# Altium schematic symbol library ParsaLibrary.SchLib: 419 symbols (part 2 of 3)
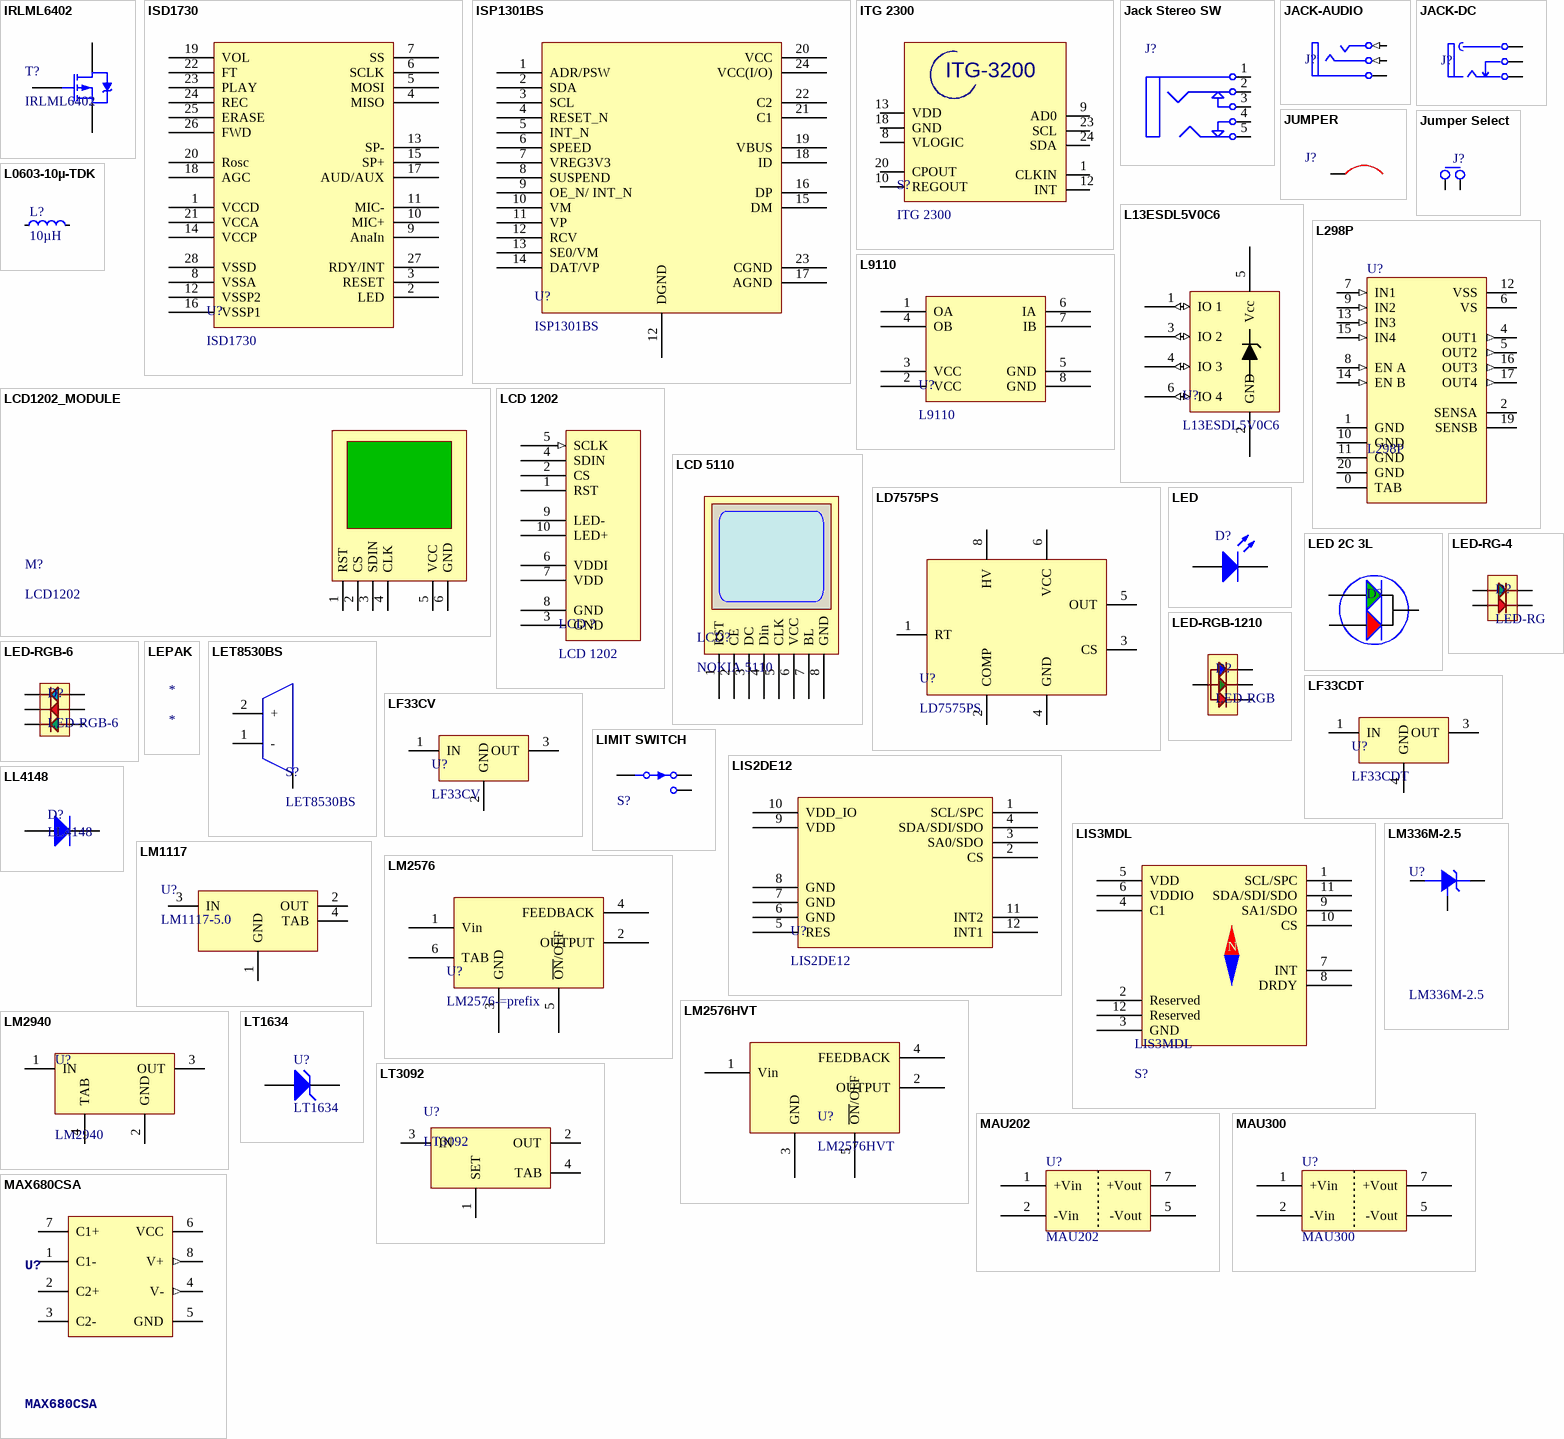
[diagram p18: symbols IRLML6402 to MAX680CSA]

## ITG 2300
designator S?
IMU SENSOR; DESIGNER: PARSA MALEKPOUR
footprint QFN50P400X400-24V6L (QFN, 24-Leads, Body 4x4mm, Pitch 0.5mm, IPC High Density)
pins: 1 CLKIN "Optional external reference clock input. Connect to GND if unused.", 8 VLOGIC "Digital IO supply voltage. VLOGIC must be ? VDD at all times.", 9 AD0 "I2C Slave Address LSB", 10 REGOUT "Regulator filter capacitor connection", 11 RESV_G hidden to GND "Reserved - Connect to ground.", 12 INT "Interrupt digital output (totem pole or open-drain)", 13 VDD "Power supply voltage", 18 GND "Power supply ground", 20 CPOUT "Charge pump capacitor connection", 23 SCL "I2C serial clock", 24 SDA "I2C serial data"
text: ITG-3200

## Jack Stereo SW
designator J?  (value not drawn)
3-Conductor Jack with 2 break contacts (normals) and 2 auxiliary make contacts
footprint Stereo-SW
pins: 1, 2, 3, 4, 5 4

## JACK-AUDIO
designator J?, comment JACK  (value not drawn)
footprint JACK-STERO
pins: 2 G (power) "Sleeve (Ground)", 3 R (in) "Ring/Right Channel/(-)", 4 T (in) "Tip/Left Channel/(+)"

## JACK-DC
designator J?, comment JACK  (value not drawn)
footprint JACK-DC-RIGHT
footprint jack-dc
pins: 1 det "detection", 2 tip (power) "Ring/Right Channel/(-)", 3 sleeve (power) "Sleeve (Ground)"

## JUMPER
designator J?  (value not drawn)
footprint JUMPER-0805
footprint JUMPER-1206 (Footprint not found)
pins: 1

## Jumper Select
designator J?, comment jumper  (value not drawn)
Jumper wire
footprint Selector
pins: 1 C1, 2 C2

## L13ESDL5V0C6
designator U?
The L13ESDL5V0C6-4 is ultra low capacitance TVS arrays designed to / protect high speed data interfaces
footprint SOT-23-6
pins: 1 IO 1 (io), 2 GND (power), 3 IO 2 (io), 4 IO 3 (io), 5 Vcc (power), 6 IO 4 (io)

## L298P
designator U?
Dual Full Bridge Driver; Revision 1: 24-Aug-2001: Footprint Added.; Revision 2: 17-Jul-2002: Re-released for DXP Platform.; Package Information: Latest Revision: Apr-1998; Published: 8-Jun-2000; Datasheet: Latest Revision: Jul-1999; Package Reference: Multiwatt15H; Publisher: Altium Limited
footprint POWERSO-20
pins: 0 TAB (power), 1 GND (power), 2 SENSA, 3 NC hidden, 4 OUT1 (out), 5 OUT2 (out), 6 VS (power), 7 IN1 (in), 8 EN A (in), 9 IN2 (in), 10 GND (power), 11 GND (power), 12 VSS (power), 13 IN3 (in), 14 EN B (in), 15 IN4 (in), 16 OUT3 (out), 17 OUT4 (out), 18 NC hidden, 19 SENSB, 20 GND (power)

## L0603-10µ-TDK
designator L?, comment 10µH
Inductor, 250mA, ±20%, 1.05ohm. -55°C ~ 125°C; Part Number: L0603-10µ-TDK; Manufacturer: TDK Corporation; Manufacturer Part Number: MLZ1608M100WTD25; Note: N.A.; Pad Count: 2; LatestRevisionDate: 2012-09-19; Published: 2019-05-06; Value: 10µH; Footprint Doc: 0603; ComponentLink1Description: Datasheet; ComponentLink2Description: Supplier link; Artikkelnr Noca: N.A.; Part number IPS: N.A.; ComponentLink1URL: N.A.; ComponentLink2URL: N.A.; HelpURL: https://product.tdk.com/info/en/catalog/datasheets/inductor_automotive_decoupling_mlz1608_en.pdf; Supplier 1: Digi-Key; Supplier Part Number 1: 445-175588-1-ND; Supplier 2: Mouser; Supplier Part Number 2: 810-MLZ1608M100WTD25; Component Class: Inductors; PartId: 100300079
footprint INDC1608X06L
pins: 1, 2

## L9110
designator U?
Motor control driver chip
footprint SOIC-8N
pins: 1 OA, 2 VCC, 3 VCC, 4 OB, 5 GND, 6 IA, 7 IB, 8 GND

## LCD1202_MODULE
designator M?, comment LCD1202
footprint LCD1202-MODULE
pins: 1 RST, 2 CS, 3 SDIN, 4 CLK, 5 VCC, 6 GND

## LCD 1202
designator LCD ?
footprint LCD 1202 (NOKIA 1202 LCD)
pins: 1 RST, 2 CS (oc), 3 GND, 4 SDIN, 5 SCLK (in), 6 VDDI "+3.3V", 7 VDD "+3.3V", 8 GND, 9 LED-, 10 LED+

## LCD 5110
designator LCD?, comment NOKIA 5110
NOKIA 5110 LCD 84mm x 84mm
pins: 1 RST, 2 CE, 3 DC, 4 Din, 5 CLK, 6 VCC, 7 BL, 8 GND

## LD7575PS
designator U?
Green-Mode PWM Controller with High-Voltage  Start-Up Circuit
footprint SOIC-8N
pins: 1 RT, 2 COMP, 3 CS, 4 GND, 5 OUT, 6 VCC, 8 HV

## LED
designator D?  (value not drawn)
footprint LED-1206
footprint LED 3MM
footprint led-0603
pins: 1 A, 2 K

## LED 2C 3L
designator D?, comment LED  (value not drawn)
LED 2 COLOR BUT 3 LEAD
footprint LED2 (LED 3 LEAD)
pins: 1, 2, 3

## LED-RG-4
designator D?, comment LED-RG
footprint LED-1210
pins: 1 GRN-A, 2 RED-A, 3 RED-C, 4 GRN-C

## LED-RGB-6
designator D?
footprint LED-5050
pins: 1 GRN-A, 2 RED-A, 3 BLU-A, 4 BLU-C, 5 RED-C, 6 GRN-C

## LED-RGB-1210
designator D?, comment LED-RGB
footprint LED-1210
pins: 1 B, 2 G, 3 R, 4 COM

## LEPAK
designator *

## LET8530BS
designator S?
footprint LET8530BS (Footprint not found)
pins: 0 -, 1 -, 2 +

## LF33CDT
designator U?
footprint TO-252
pins: 1 IN, 3 OUT, 4 GND

## LF33CV
designator U?
footprint TO-220
pins: 1 IN, 2 GND, 3 OUT

## LIMIT SWITCH
designator S?
LIMIT SWITCH; Published: 24-Mar-1999; LatestRevisionDate: 17-Jul-2002; LatestRevisionNote: Re-released for DXP Platform.; PackageReference: SW-7; Publisher: Altium Limited; PackageDescription: Switch; 7 Leads
footprint LIMITSWITCH-1 (12mmx12mm)
pins: 1 com, 2 NO, 3 NC

## LIS2DE12
designator U?
ultra-low-power high-performance 3-axis "femto" accelerometer
footprint LGA12-2X2X1
pins: 1 SCL/SPC, 2 CS, 3 SA0/SDO, 4 SDA/SDI/SDO, 5 RES "Connect to GND", 6 GND (power) "0 V supply", 7 GND (power) "0 V supply", 8 GND (power) "0 V supply", 9 VDD (power), 10 VDD_IO (power), 11 INT2, 12 INT1

## LIS3MDL
designator LIS3MDL, comment S?
Digital output magnetic sensor:   ultra-low-power, high-performance 3-axis magnetometer
footprint LGA12-2X2X1
pins: 1 SCL/SPC "Serial Clock – I2C Master/Slave Clock", 2 Reserved "Connect to GND", 3 GND (power) "Connect to GND", 4 C1 "Capacitor connection (C1=100 nF)", 5 VDD (power) "Power supply", 6 VDDIO (power) "Power supply for I/O pins", 7 INT "Interrupt", 8 DRDY "Data Ready", 9 SA1/SDO "SPI serial data output (SDO)  I  2C less significant bit of the device address (SA1)", 10 CS "SPI enable", 11 SDA/SDI/SDO "I  2C serial data (SDA)  SPI serial data input (SDI)  3-wire interface serial data output (SDO)", 12 Reserved "Connect to GND"
text: N

## LL4148
designator D?
footprint SOD-80 (MINI MELF)
pins: 1 A, 2 K

## LM336M-2.5
designator U?
Voltage Reference Diode, 8-pin Narrow SOIC; Manufacturer: National Semiconductor; PackageTopMarking: NSZXTT*LM336*M2.5; PowerWise: N; CompType: Voltage Reference IC; High-Reliability: Y; DatasheetVersion: Jun-2005; PackageVersion: revM, May-2009; PackageReference: M08A; PackageDescription: SOIC Narrow, 4.9 x 3.9 x 1.45mm, 8 Lead, 1.27mm Pitch; PartNumber: LM336M-2.5; RoHS: N; PinCount: 8; Code_JEDEC: MS-012-AA; Code_IPC: SOIC127P600-8; ComponentLink1Description: Manufacturer URL; ComponentLink1URL: http://www.national.com/; ComponentLink2Description: LM136-2.5 Datasheet; ComponentLink2URL: http://www.national.com/ds/LM/LM136-2.5.pdf; ComponentLink3Description: LM336-2.5 Web Page; ComponentLink3URL: http://www.national.com/pf/LM/LM336-2.5.html; ComponentLink4Description: M08A Package Page; ComponentLink4URL: http://www.national.com/packaging/folders/m08a.html
footprint soic-8n
pins: 4 -V, 5 ADJ, 8 +V

## LM1117
designator U?, comment LM1117-5.0
800mA Low-Dropout Linear Regulator; Output Voltage: 5.0
footprint SOT-223
pins: 1 GND (power), 2 OUT (power), 3 IN (power), 4 TAB (power)

## LM2576
designator U?, comment LM2576-=prefix
3.0 A, 15 V, Step−Down  Switching Regulator; prefix: ADJ
footprint D2PAK
pins: 1 Vin, 2 OUTPUT, 3 GND, 4 FEEDBACK, 5 ~{ON}/OFF, 6 TAB

## LM2576HVT
designator U?
LM2576xx Series SIMPLE SWITCHER® 3-A Step-Down Voltage Regulato
footprint TO-220-5
pins: 1 Vin, 2 OUTPUT, 3 GND, 4 FEEDBACK, 5 ~{ON}/OFF

## LM2940
designator U?
x.x Volt, 800mA Low-Dropout Linear Regulator, 4-pin SOT-223; PartNumber: LM1117IMP-3.3; Manufacturer: National Semiconductor; PackageTopMarking: XYTT*N05B; PowerWise: N; CompType: LDO IC; Published: 4-Dec-2008; DatasheetVersion: Apr-2006; PackageVersion: revB, Apr-2003; PackageReference: MP04A; Publisher: Altium Limited; PackageDescription: Molded SOT-223, 6.50 x 3.56 x 1.6mm Body, 4 Lead, 2.3mm Pitch; Supplier 1: Farnell; Supplier Part Number 1: 7614123; RoHS: N; PinCount: 4; Code_JEDEC: TO-261-AA; Code_IPC: SOT223-4; ComponentLink1Description: LM1117 Datasheet; ComponentLink1URL: http://www.national.com/ds/LM/LM1117.pdf; ComponentLink2Description: LM1117 Web Page; ComponentLink2URL: http://www.national.com/pf/LM/LM1117.html; ComponentLink3Description: MP04A Package Page; ComponentLink3URL: http://www.national.com/packaging/folders/mp04a.html
footprint SOT-223
pins: 1 IN (power), 2 GND (power), 3 OUT (power), 4 TAB (power)

## LT1634
designator U?
Micropower Precision  Shunt Voltage Reference; Published: 8-Jun-2000; LatestRevisionDate: 17-Jul-2002; LatestRevisionNote: Re-released for DXP Platform.; PackageReference: DIODE-0.7; Publisher: Altium Limited; PackageDescription: Diode, Thru-Hole; 2 Leads; 0.7 in Pin Spacing
footprint MSOP-8
pins: 4 GND, 6 VOUT

## LT3092
designator U?
footprint SOT-223
pins: 1 SET (power), 2 OUT (power), 3 IN (power), 4 TAB (power)

## MAU202
designator U?
1W, FIXED INPUT ISOLATED & UNREGULATED / SINGLE OUTPUT DC-DC CONVERTER
footprint MAU202
pins: 1 +Vin, 2 -Vin, 5 -Vout, 7 +Vout

## MAU300
designator U?
2W, FIXED INPUT ISOLATED & UNREGULATED / SINGLE OUTPUT DC-DC CONVERTER
footprint MAU300
pins: 1 +Vin, 2 -Vin, 5 -Vout, 7 +Vout

## MAX680CSA
designator U?
Switched-capcitor VOLTAGE CONVERTER; MF: MAXIM; MPN: MAX680CSA; OC_FARNELL: 9725717; OC_NEWARK: 34C3975
footprint SOIC-8N
pins: 1 C1-, 2 C2+, 3 C2-, 4 V- (out), 5 GND, 6 VCC, 7 C1+, 8 V+ (out)

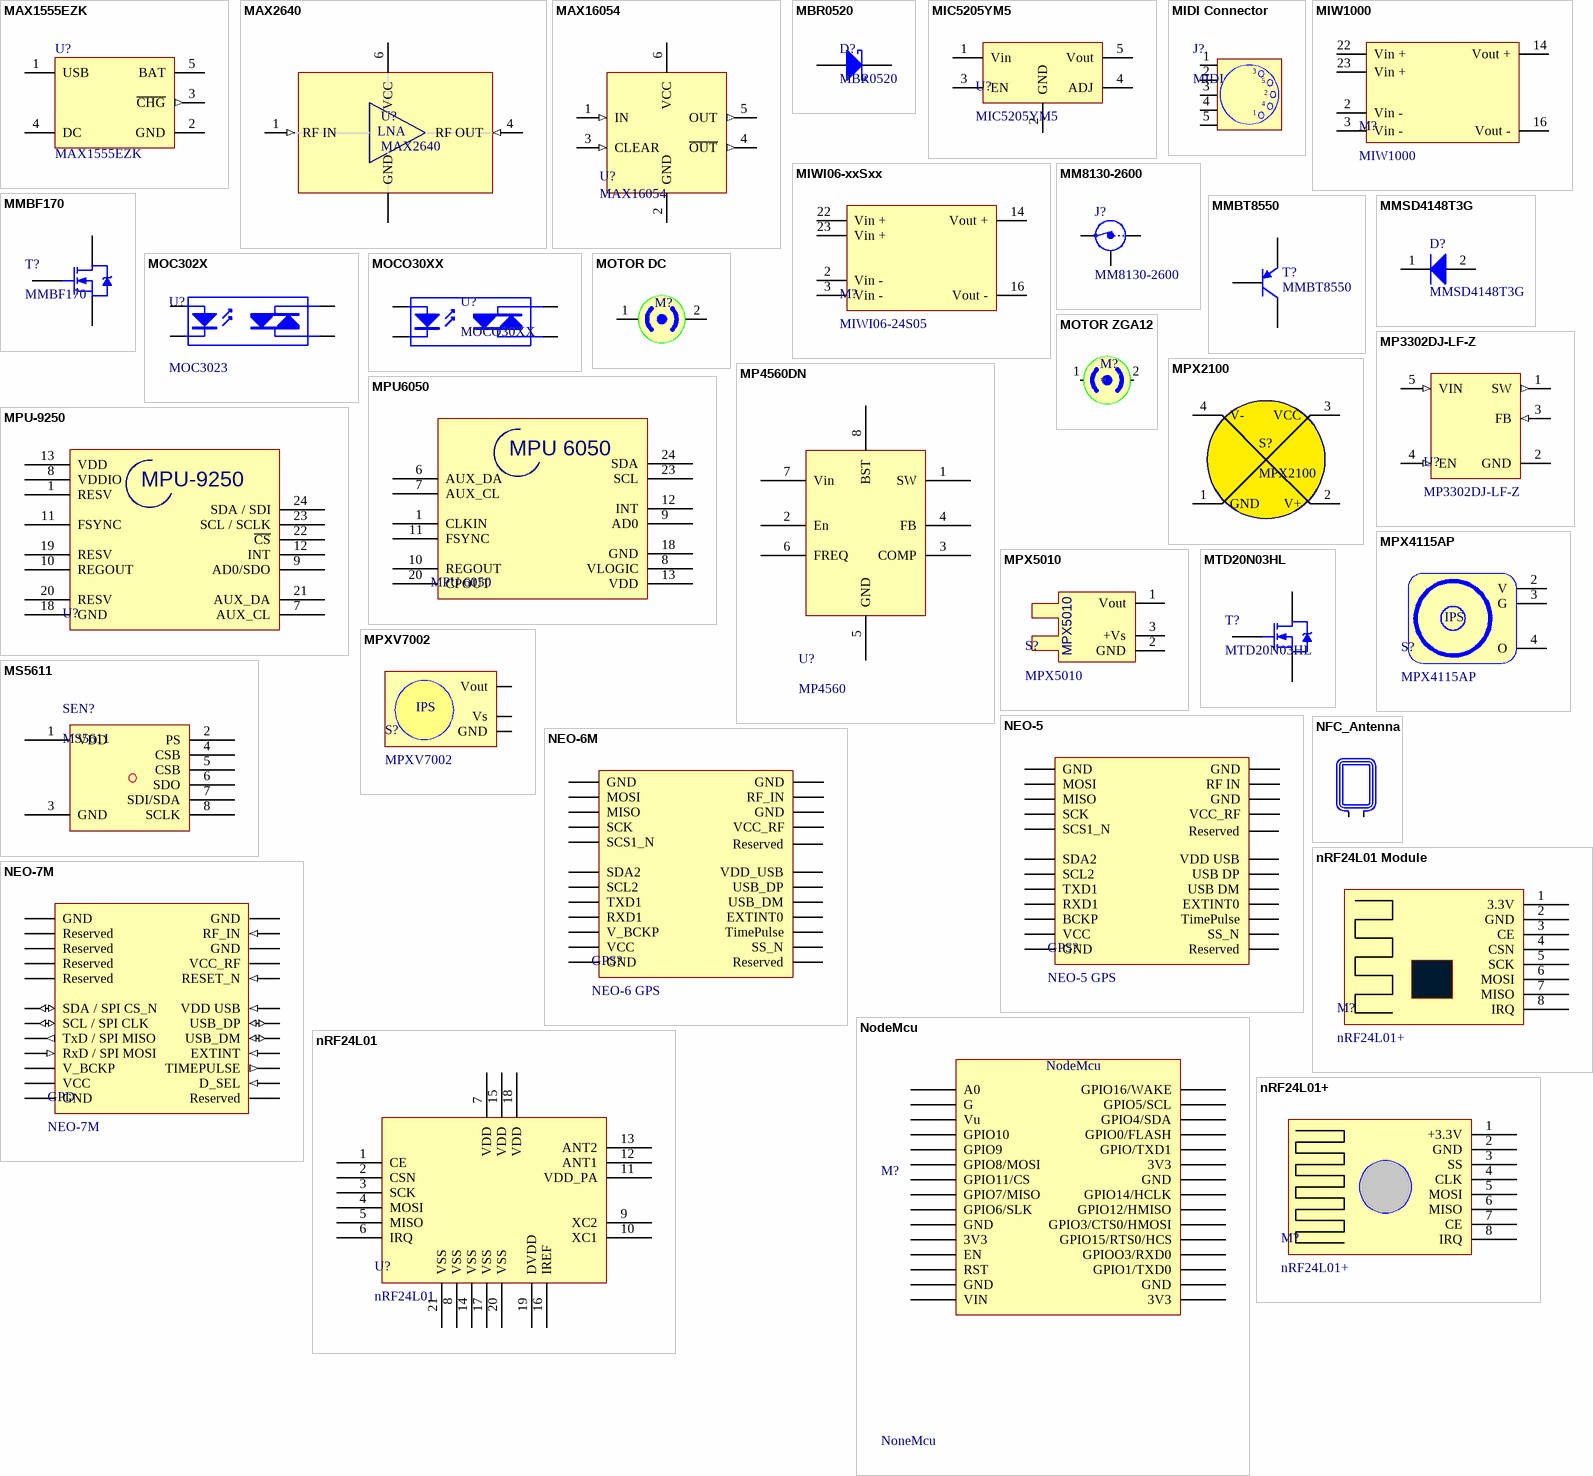
[diagram p8: symbols MAX1555EZK to nRF24L01+]

## MAX1555EZK
designator U?
SOT23 Dual-Input USB/AC Adapter 1-Cell Li+  Battery Chargers; Manufacturer: MAXIM Technology; Battery Chemistry: Li-Ion, Li-Polymer; Charge Termination: C/10; Float Voltage: 4.2 V; Max Charge Current(A): 0.8; Number of Cells: 1; Type of Charger: Linear; Vin Max(V): 6.5; Vin Min(V): 4.25; PackageVersion: Jun-10; PackageReference: S5-5; PackageDescription: 5-Pin Plastic TSOT-23, Body 1.63 x 2.90 mm, Pitch 0.95 mm; RoHS: FALSE; Mounting Technology: Surface Mount; Code_JEDEC: MO-193; PartNumber: MAX1555EZK; ComponentLink1Description: Manufacturer URL; ComponentLink1URL: http://www.linear.com/; ComponentLink2Description: Datasheet; ComponentLink2URL: http://cds.linear.com/docs/en/datasheet/405442xf.pdf; ComponentLink3Description: Package Specification; ComponentLink3URL: http://cds.linear.com/docs/en/packaging/SOT_5_05-08-1635.pdf
footprint SOT-23-5
pins: 1 USB (hiz), 2 GND (power) "Ground.", 3 ~{CHG} (out), 4 DC (power), 5 BAT (power) "Charge Current Output. Provides charge current to the battery and regulates the final float voltage to 4.2V. An internal precision resistor divider from this pin sets the float voltage which is disconnected in shutdown mode."

## MAX2640
designator U?
300MHz to 2500MHz SiGe  Ultra-Low-Noise Amplifiers
footprint SOT-23-6
pins: 1 RF IN (in) "RF Input (Pin)", 2 GND "Drain Voltage (VDD), Battery", 3 GND "Drain Voltage (VDD), Battery", 4 RF OUT (in) "RF Output", 5 GND "Drain Voltage (VDD), Battery", 6 VCC "Gate Voltage (VGG), Power Control"
text: LNA

## MAX16054
designator U?
On/Off Controller with Debounce and / ±15kV ESD Protection
footprint SOT-23-6
pins: 1 IN (in), 2 GND (power), 3 CLEAR (in), 4 ~{OUT} (out), 5 OUT (out), 6 VCC (power)

## MBR0520
designator D?
Surface Mount / Schottky Power Rectifier
footprint SOD-123
pins: 1 A, 2 K

## MIC5205YM5
designator U?
150 mA Low-Noise LDO Regulator
footprint SOT-23-5
pins: 1 Vin, 2 GND, 3 EN, 4 ADJ, 5 Vout

## MIDI Connector
designator J?, comment MIDI
pins: 1, 2, 3, 4, 5

## MIW1000
designator M?
DC/DC CONVERTOR SINGLE OUTPUT
footprint MIW1000 (DC/DC CONVERTER)
pins: 2 Vin -, 3 Vin -, 11 NC hidden, 14 Vout +, 16 Vout -, 22 Vin +, 23 Vin +

## MIWI06-xxSxx
designator M?, comment MIWI06-24S05
DC/DC CONVERTOR SINGLE OUTPUT
footprint MIWI06 (DC/DC CONVERTER 6W, Single & Dual Output)
pins: 2 Vin -, 3 Vin -, 11 NC hidden, 14 Vout +, 16 Vout -, 22 Vin +, 23 Vin +

## MM8130-2600
designator J?
Coaxial Connector with Switch; Manufacturer: Murata; Part number IPS: 00000009955; Note: N.A.; Artikkelnr Noca: 55029011; Pad Count: 3; Part Number: MM8130-2600; Manufacturer Part Number: MM8130-2600; LatestRevisionDate: 2014-04-24; Published: 2014-04-24; Value: MM8130-2600; Footprint Doc: COAXIAL-SWF; ComponentLink1URL: N.A.; ComponentLink1Description: Datasheet; ComponentLink2URL: N.A.; ComponentLink2Description: Supplier link; HelpURL: http://www.murata.com/products/catalog/pdf/o33e.pdf; Supplier 1: Digi-Key; Supplier Part Number 1: 490-4981-1-ND; Supplier 2: Mouser; Supplier Part Number 2: 81-MM8130-2600RA2; Component Class: Connectors; PartId: 100500400
footprint COAXIAL-SWF
pins: 1 IN, 2 Shield, 3 OUT

## MMBF170
designator T?
N-CHANNEL ENHANCEMENT MODE MOSFET
footprint sot-23
pins: 1 G, 2 S, 3 D

## MMBT8550
designator T?
footprint SOT-23-3 (SOT-23 3PIN)
pins: 1 C, 2 E, 3 B

## MMSD4148T3G
designator D?
Switching Diode, 2-Pin SOD-123, Pb-Free, Tape and Reel; Manufacturer: On Semiconductor; Configuration: Single; trr Max (ns): 4; IF Max (A): 0.2; ComponentLink1Description: Manufacturer URL; PackageReference: SOD-123-2-425-04; ComponentLink2Description: Datasheet; PackageVersion: Rev. G, 10/2009; PartNumber: MMSD4148T3G; ComponentLink3Description: Package Specification; ComponentLink1URL: http://www.onsemi.com/; PackageDescription: 2-Pin SOD, Body 1.6 x 2.69 mm; DatasheetVersion: Rev. 11; Packing: Tape and Reel; RoHS: TRUE; ComponentLink2URL: http://www.onsemi.com/pub_link/Collateral/MMSD4148T1-D.PDF; Mounting Technology: Surface Mount; ComponentLink3URL: http://www.onsemi.com/pub_link/Collateral/425-04.PDF
footprint ONSC-SOD-123-2-425-04_V (SOD, 2-Leads, Body 2.69x1.6mm)
pins: 1 K, 2 A

## MOC302X
designator U?, comment MOC3023
Opto-Triac; Publisher: ATROPATE
footprint SOIC-6-BIG
pins: 1 A, 2 K, 4 A/K, 6 A/K

## MOCO30XX
designator U?
footprint DIP6
pins: 1 A, 2 K, 4 A/K, 6 A/K

## MOTOR DC
designator M?  (value not drawn)
footprint CONN-2
pins: 1, 2

## MOTOR ZGA12
designator M?
pins: 1, 2

## MP3302DJ-LF-Z
designator U?
footprint SOT-23-5
pins: 1 SW (out), 2 GND (power), 3 FB (in), 4 EN (in), 5 VIN (in)

## MP4560DN
designator U?, comment MP4560
Step-Down Converter
footprint SOIC-8N
pins: 1 SW, 2 En, 3 COMP, 4 FB, 5 GND, 6 FREQ, 7 Vin, 8 BST

## MPU6050
designator MPU 6050, comment MPU 6050  (value not drawn)
footprint MPU6050
pins: 1 CLKIN "Optional external reference clock input. Connect to GND if unused.", 6 AUX_DA "I2C master serial data, for connecting to external sensors", 7 AUX_CL "I2C Master serial clock, for connecting to external sensors", 8 VLOGIC (power) "Digital I/O supply voltage", 9 AD0 "I2C Slave Address LSB (AD0)", 10 REGOUT "Regulator filter capacitor connection", 11 FSYNC "Frame synchronization digital input. Connect to GND if unused.", 12 INT "Interrupt digital output (totem pole or open-drain)", 13 VDD (power) "Power supply voltage and Digital I/O supply voltage", 18 GND (power) "Power supply ground", 19 RESV hidden "Reserved. Do not connect.", 20 CPOUT "Charge pump capacitor connection", 21 RESV hidden "Reserved. Do not connect.", 22 RESV hidden "Reserved. Do not connect.", 23 SCL "I2C serial clock (SCL)", 24 SDA "I2C serial data (SDA)"

## MPU-9250
designator U?  (value not drawn)
footprint QFN-24
pins: 1 RESV "Digital I/O supply voltage", 7 AUX_CL "I2C Master serial clock, for connecting to external sensors", 8 VDDIO "Digital I/O supply voltage", 9 AD0/SDO "I2C Slave Address LSB (AD0)", 10 REGOUT "Regulator filter capacitor connection", 11 FSYNC "Frame synchronization digital input. Connect to GND if unused.", 12 INT "Interrupt digital output (totem pole or open-drain)", 13 VDD "Power supply voltage and Digital I/O supply voltage", 18 GND "Power supply ground", 19 RESV "Digital I/O supply voltage", 20 RESV "Digital I/O supply voltage", 21 AUX_DA "I2C master serial data, for connecting to external sensors", 22 ~{CS} "Charge pump capacitor connection", 23 SCL / SCLK "I2C serial clock (SCL)", 24 SDA / SDI "I2C serial data (SDA)"

## MPX2100
designator S?
100 kPa On-Chip Temperature  Compensated and Calibrated  Silicon Pressure Sensors
footprint HDR1X4 (Footprint not found)
pins: 1 GND (power), 2 V+, 3 VCC (power), 4 V-

## MPX4115AP
designator S?
Pressure Sensor
footprint MPX4115AP
pins: 2 V "Vs", 3 G "Ground", 4 O "Vout"
text: IPS

## MPX5010
designator S?
footprint MPX5010
pins: 1 Vout, 2 GND, 3 +Vs, 4 NC hidden, 5 NC hidden, 6 NC hidden

## MPXV7002
designator S?
Pressure Sensor; Designer: Parsa Malekpour
footprint mpxv7002
pins: 2 Vs (power), 3 GND (power), 4 Vout (power)
text: IPS

## MS5611
designator SEN?
Digital Pressure Sensor
footprint MS5611 (Digital pressure sensor)
pins: 1 VDD, 2 PS, 3 GND, 4 CSB, 5 CSB, 6 SDO, 7 SDI/SDA, 8 SCLK

## MTD20N03HL
designator T?
footprint TO-252
pins: 1 G, 3 S, 4 D

## NEO-5
designator GPS?, comment NEO-5 GPS
Designer: Parsa Malekpour
footprint NEO-5
pins: 1 Reserved, 2 SS_N, 3 TimePulse, 4 EXTINT0, 5 USB DM, 6 USB DP, 7 VDD USB, 8 Reserved, 9 VCC_RF, 10 GND, 11 RF IN, 12 GND, 13 GND, 14 MOSI "/CFG_COM0", 15 MISO "MISO/CFG_COM1", 16 SCK "SCK/CFG_GPS0", 17 SCS1_N, 18 SDA2, 19 SCL2, 20 TXD1, 21 RXD1, 22 BCKP, 23 VCC, 24 GND

## NEO-6M
designator GPS?, comment NEO-6 GPS
Designer: Parsa Malekpour
footprint NEO-6
pins: 1 Reserved, 2 SS_N, 3 TimePulse, 4 EXTINT0, 5 USB_DM, 6 USB_DP, 7 VDD_USB, 8 Reserved, 9 VCC_RF, 10 GND, 11 RF_IN, 12 GND, 13 GND, 14 MOSI "/CFG_COM0", 15 MISO "MISO/CFG_COM1", 16 SCK "SCK/CFG_GPS0", 17 SCS1_N, 18 SDA2, 19 SCL2, 20 TXD1, 21 RXD1, 22 V_BCKP, 23 VCC, 24 GND

## NEO-7M
designator GPD
footprint NEO-7
pins: 1 Reserved, 2 D_SEL (in) "Interface select", 3 TIMEPULSE (out) "Time pulse (1PPS)", 4 EXTINT (in) "External Interrupt Pin", 5 USB_DM (io) "USB Data", 6 USB_DP (io) "USB Data", 7 VDD USB (in) "USB Supply", 8 RESET_N (in), 9 VCC_RF (power) "Output Voltage RF section", 10 GND (power) "Ground", 11 RF_IN (in) "GPS signal input", 12 GND (power) "Ground", 13 GND (power) "Ground", 14 Reserved, 15 Reserved, 16 Reserved, 17 Reserved, 18 SDA / SPI CS_N (io) "DDC Data if D_SEL =1 (or open) / SPI Chip Select if D_SEL = 0", 19 SCL / SPI CLK (io) "DDC Clock if D_SEL =1(or open) / SPI Clock if D_SEL = 0", 20 TxD / SPI MISO (out) "Serial Port if D_SEL =1(or open) / SPI MISO if D_SEL = 0", 21 RxD / SPI MOSI (in) "Serial Port if D_SEL =1(or open) / SPI MOSI if D_SEL = 0", 22 V_BCKP (power) "Backup voltage supply", 23 VCC (power) "Supply voltage", 24 GND (power) "Ground"

## NFC_Antenna
designator A?, comment NFC Antenna  (value not drawn)  (no BOM)
Part Number: NFC_ANT_TP; Footprint Doc: TP_2x1mm_TH; LatestRevisionDate: 2016-02-23; Pin Count: 2; Publisher: Nordic Semiconductor; Published: 2016-02-23; Value: NFC Antenna
footprint TP_2x1mm_TH
pins: 1, 2

## NodeMcu
designator M?, comment NoneMcu
footprint NODEMCU
pins: 1 A0, 2 G, 3 Vu, 4 GPIO10, 5 GPIO9, 6 GPIO8/MOSI, 7 GPIO11/CS, 8 GPIO7/MISO, 9 GPIO6/SLK, 10 GND, 11 3V3, 12 EN, 13 RST, 14 GND, 15 VIN, 16 3V3, 17 GND, 18 GPIO1/TXD0, 19 GPIOO3/RXD0, 20 GPIO15/RTS0/HCS, 21 GPIO3/CTS0/HMOSI, 22 GPIO12/HMISO, 23 GPIO14/HCLK, 24 GND, 25 3V3, 26 GPIO/TXD1, 27 GPIO0/FLASH, 28 GPIO4/SDA, 29 GPIO5/SCL, 30 GPIO16/WAKE

## nRF24L01
designator U?
footprint QFN20
pins: 1 CE, 2 CSN, 3 SCK, 4 MOSI, 5 MISO, 6 IRQ, 7 VDD (power), 8 VSS (power), 9 XC2, 10 XC1, 11 VDD_PA, 12 ANT1, 13 ANT2, 14 VSS (power), 15 VDD (power), 16 IREF, 17 VSS (power), 18 VDD (power), 19 DVDD, 20 VSS (power), 21 VSS (power)

## nRF24L01 Module
designator M?, comment nRF24L01+
nRF24L01 Module
footprint nRF24L01+ Module
pins: 1 3.3V, 2 GND, 3 CE, 4 CSN, 5 SCK, 6 MOSI, 7 MISO, 8 IRQ

## nRF24L01+
designator M?
2.4GHz wireless module
footprint nRF24L01+ - SMD
pins: 1 +3.3V, 2 GND, 3 SS, 4 CLK, 5 MOSI, 6 MISO, 7 CE, 8 IRQ

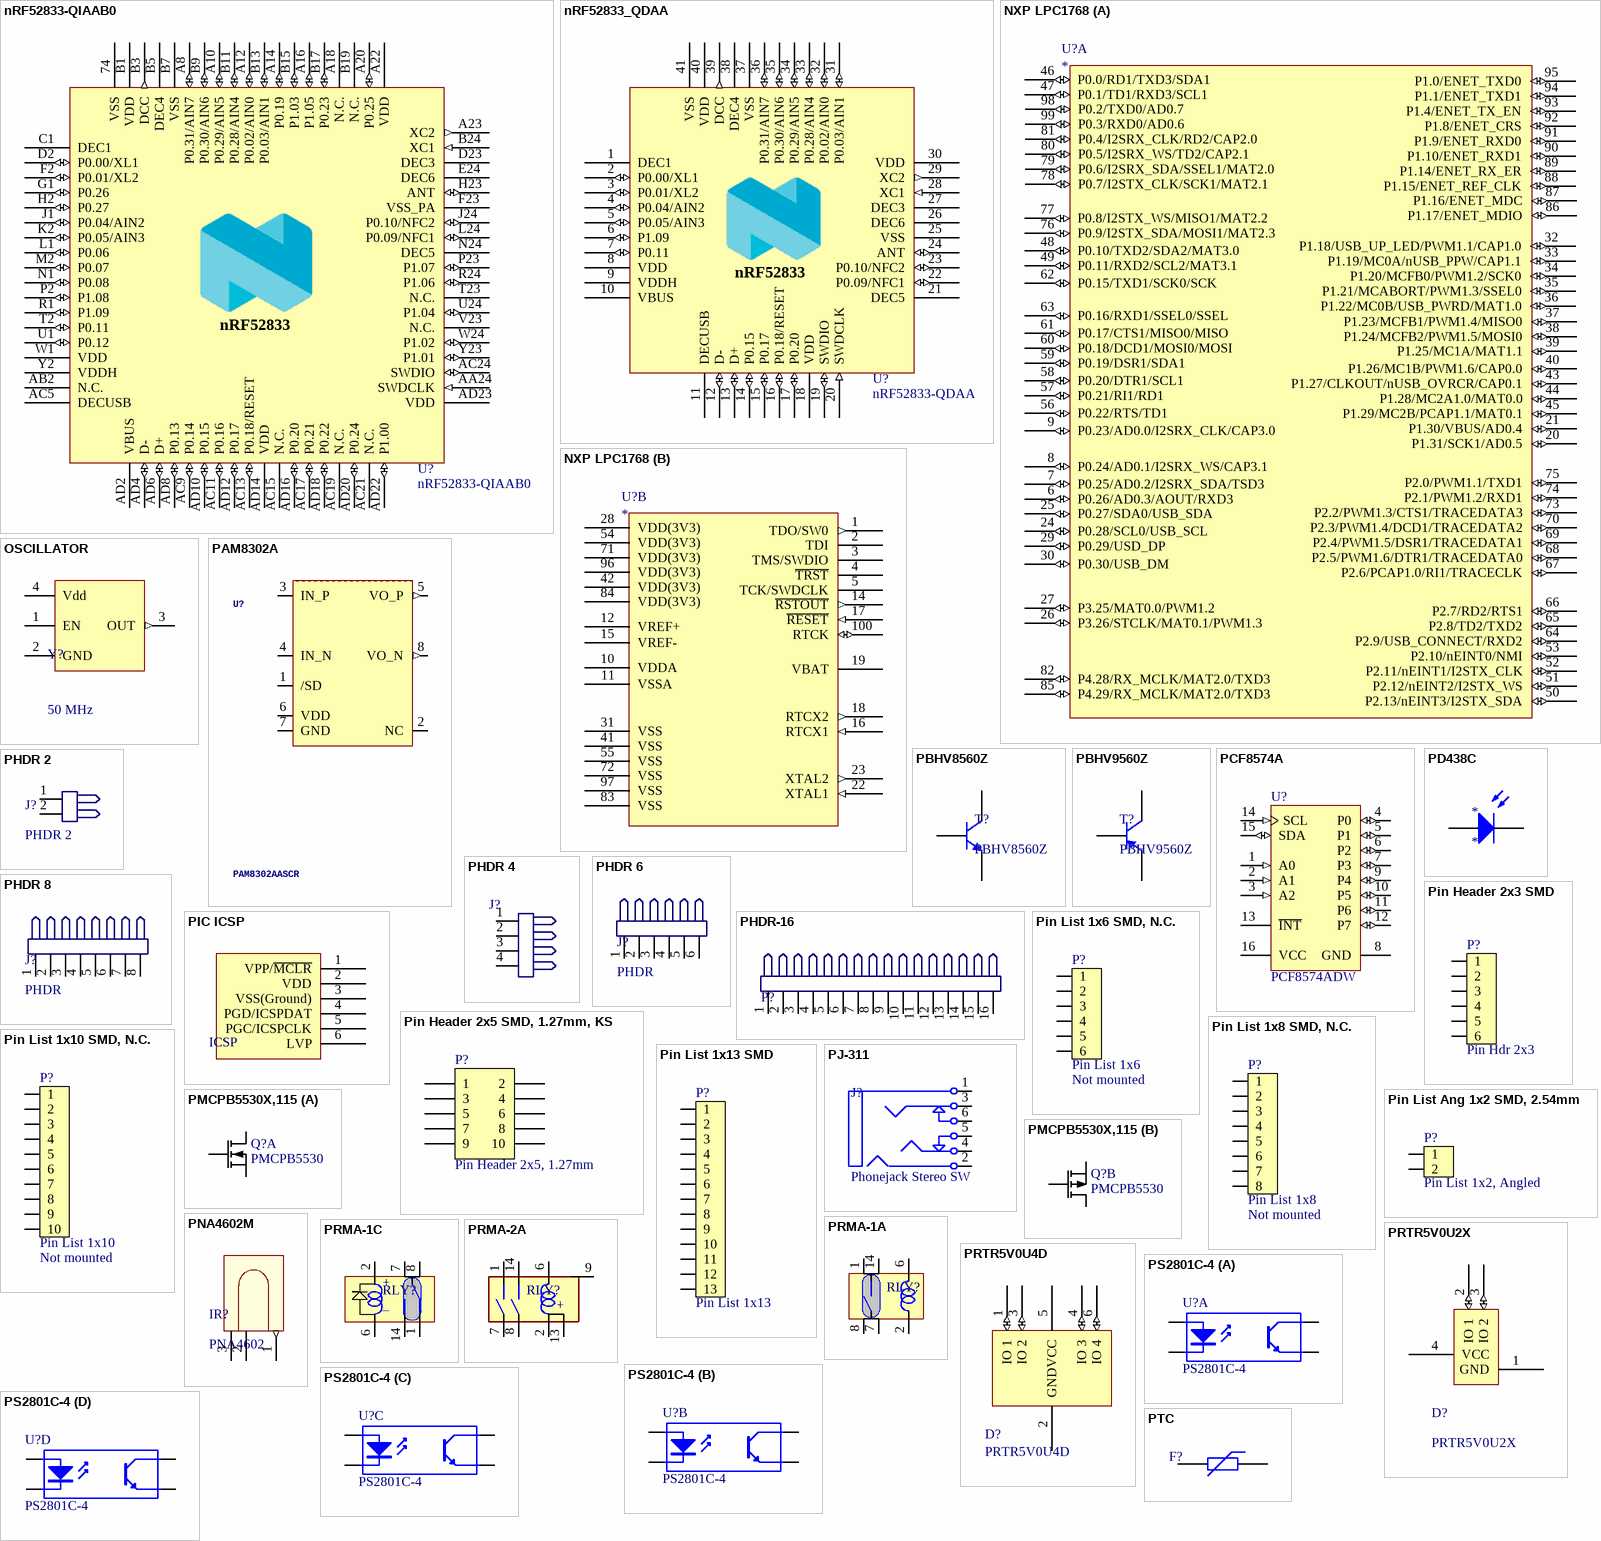
[diagram p9: symbols nRF52833-QIAAB0 to PTC]

## nRF52833-QIAAB0
designator U?
Multi-protocol Bluetooth Low Energy, IEEE 802.15.4, ANT and 2.4GHz proprietary system-on-chip; Manufacturer: Nordic Semiconductor; Note: N.A.; Pad Count: 73; Part Number: nRF52833-QIAAB0; Manufacturer Part Number: nRF52833-QIAAB0; LatestRevisionDate: 2021-08-30; Published: 2021-08-30; Value: nRF52833-QIAAB0; Artikkelnr Noca: N.A.; Footprint Doc: AQFN-73; Part number IPS: N.A.; ComponentLink1URL: N.A.; ComponentLink1Description: Datasheet; ComponentLink2URL: N.A.; ComponentLink2Description: Supplier link; HelpURL: N.A.; Supplier 1: Nordic Semiconductor; Supplier Part Number 1: nRF52833-QIAAB0; Supplier 2: N.A.; Supplier Part Number 2: N.A.; Component Class: nRF_Devices; Author: rsk; Part number Norautron: N.A.
footprint AQFN50P700X700X85_HS-74N
pins: 74 VSS (power), A8 P0.31/AIN7 (io), A10 P0.29/AIN5 (io), A12 P0.02/AIN0 (io), A14 P0.19 (io), A16 P1.05 (io), A18 N.C., A20 P0.25 (io), A22 VDD (power), A23 XC2 (out), AA24 SWDCLK (in), AB2 N.C., AC5 DECUSB (power), AC9 P0.14 (io), AC11 P0.16 (io), AC13 P0.18/RESET (io), AC15 N.C., AC17 P0.21 (io), AC19 N.C., AC21 N.C., AC24 SWDIO (io), AD2 VBUS (power), AD4 D- (io), AD6 D+ (io), AD8 P0.13 (io), AD10 P0.15 (io), AD12 P0.17 (io), AD14 VDD (power), AD16 P0.20 (io), AD18 P0.22 (io), AD20 P0.24 (io), AD22 P1.00 (io), AD23 VDD (power), B1 VDD (power), B3 DCC (out), B5 DEC4 (power), B7 VSS (power), B9 P0.30/AIN6 (io), B11 P0.28/AIN4 (io), B13 P0.03/AIN1 (io), B15 P1.03 (io), B17 P0.23 (io), B19 N.C., B24 XC1 (in), C1 DEC1 (power), D2 P0.00/XL1 (io), D23 DEC3 (power), E24 DEC6 (power), F2 P0.01/XL2 (io), F23 VSS_PA (power), G1 P0.26 (io), H2 P0.27 (io), H23 ANT (io), J1 P0.04/AIN2 (io), J24 P0.10/NFC2 (io), K2 P0.05/AIN3 (io), L1 P0.06 (io), L24 P0.09/NFC1 (io), M2 P0.07 (io), N1 P0.08 (io), N24 DEC5 (power), P2 P1.08 (io), P23 P1.07 (io), R1 P1.09 (io), R24 P1.06 (io), T2 P0.11 (io), T23 N.C., U1 P0.12 (io), U24 P1.04 (io), V23 N.C., W1 VDD (power), W24 P1.02 (io), Y2 VDDH (power), Y23 P1.01 (io)
text: nRF52833

## nRF52833_QDAA
designator U?, comment nRF52833-QDAA
Multi-protocol Bluetooth Low Energy, IEEE 802.15.4, ANT and 2.4GHz proprietary system-on-chip; Manufacturer: Nordic Semiconductor; Part Number: nRF52833-QDAA; Manufacturer Part Number: nRF52833-QDAA; LatestRevisionDate: 2018-12-03; Pin Count: 40; Publisher: Nordic Semiconductor; Published: 2018-12-03; Value: nRF52833-QDAA; Footprint Doc: QFN-40
footprint QFN40P500X500X50_HS-41N
pins: 1 DEC1 (power), 2 P0.00/XL1 (io), 3 P0.01/XL2 (io), 4 P0.04/AIN2 (io), 5 P0.05/AIN3 (io), 6 P1.09 (io), 7 P0.11 (io), 8 VDD (power), 9 VDDH (power), 10 VBUS (power), 11 DECUSB (power), 12 D- (io), 13 D+ (io), 14 P0.15 (io), 15 P0.17 (io), 16 P0.18/RESET (io), 17 P0.20 (io), 18 VDD (power), 19 SWDIO (io), 20 SWDCLK (in), 21 DEC5 (power), 22 P0.09/NFC1 (io), 23 P0.10/NFC2 (io), 24 ANT (io), 25 VSS (power), 26 DEC6 (power), 27 DEC3 (power), 28 XC1 (in), 29 XC2 (out), 30 VDD (power), 31 P0.03/AIN1 (io), 32 P0.02/AIN0 (io), 33 P0.28/AIN4 (io), 34 P0.29/AIN5 (io), 35 P0.30/AIN6 (io), 36 P0.31/AIN7 (io), 37 VSS (power), 38 DEC4 (power), 39 DCC (out), 40 VDD (power), 41 VSS (power)
text: nRF52833

## NXP LPC1768
designator U?
footprint SOT407-1_M (Thin QFP, 100-Leads, Body 14x14mm, Pitch 0.5mm, IPC Low Density)
part A pins: 6 P0.26/AD0.3/AOUT/RXD3 (io), 7 P0.25/AD0.2/I2SRX_SDA/TSD3 (io), 8 P0.24/AD0.1/I2SRX_WS/CAP3.1 (io), 9 P0.23/AD0.0/I2SRX_CLK/CAP3.0 (io), 20 P1.31/SCK1/AD0.5 (io), 21 P1.30/VBUS/AD0.4 (io), 24 P0.28/SCL0/USB_SCL (io), 25 P0.27/SDA0/USB_SDA (io), 26 P3.26/STCLK/MAT0.1/PWM1.3 (io), 27 P3.25/MAT0.0/PWM1.2 (io), 29 P0.29/USD_DP (io), 30 P0.30/USB_DM (io), 32 P1.18/USB_UP_LED/PWM1.1/CAP1.0 (io), 33 P1.19/MC0A/nUSB_PPW/CAP1.1 (io), 34 P1.20/MCFB0/PWM1.2/SCK0 (io), 35 P1.21/MCABORT/PWM1.3/SSEL0 (io), 36 P1.22/MC0B/USB_PWRD/MAT1.0 (io), 37 P1.23/MCFB1/PWM1.4/MISO0 (io), 38 P1.24/MCFB2/PWM1.5/MOSI0 (io), 39 P1.25/MC1A/MAT1.1 (io), 40 P1.26/MC1B/PWM1.6/CAP0.0 (io), 43 P1.27/CLKOUT/nUSB_OVRCR/CAP0.1 (io), 44 P1.28/MC2A1.0/MAT0.0 (io), 45 P1.29/MC2B/PCAP1.1/MAT0.1 (io), 46 P0.0/RD1/TXD3/SDA1 (io), 47 P0.1/TD1/RXD3/SCL1 (io) "P0[1] — General purpose digital input/output pin.  O TD1 — CAN1 transmitter output. (LPC1769/68/66/65/64 only).  I RXD3 — Receiver input for UART3.  I/O SCL1 — I2C1 clock input/output. (This is not an I2C-bus compliant  open-drain pin).", 48 P0.10/TXD2/SDA2/MAT3.0 (io), 49 P0.11/RXD2/SCL2/MAT3.1 (io), 50 P2.13/nEINT3/I2STX_SDA (io), 51 P2.12/nEINT2/I2STX_WS (io), 52 P2.11/nEINT1/I2STX_CLK (io), 53 P2.10/nEINT0/NMI (io), 56 P0.22/RTS/TD1 (io), 57 P0.21/RI1/RD1 (io), 58 P0.20/DTR1/SCL1 (io), 59 P0.19/DSR1/SDA1 (io), 60 P0.18/DCD1/MOSI0/MOSI (io), 61 P0.17/CTS1/MISO0/MISO (io), 62 P0.15/TXD1/SCK0/SCK (io), 63 P0.16/RXD1/SSEL0/SSEL (io), 64 P2.9/USB_CONNECT/RXD2 (io), 65 P2.8/TD2/TXD2 (io), 66 P2.7/RD2/RTS1 (io), 67 P2.6/PCAP1.0/RI1/TRACECLK (io), 68 P2.5/PWM1.6/DTR1/TRACEDATA0 (io), 69 P2.4/PWM1.5/DSR1/TRACEDATA1 (io), 70 P2.3/PWM1.4/DCD1/TRACEDATA2 (io), 73 P2.2/PWM1.3/CTS1/TRACEDATA3 (io), 74 P2.1/PWM1.2/RXD1 (io), 75 P2.0/PWM1.1/TXD1 (io), 76 P0.9/I2STX_SDA/MOSI1/MAT2.3 (io), 77 P0.8/I2STX_WS/MISO1/MAT2.2 (io), 78 P0.7/I2STX_CLK/SCK1/MAT2.1 (io), 79 P0.6/I2SRX_SDA/SSEL1/MAT2.0 (io), 80 P0.5/I2SRX_WS/TD2/CAP2.1 (io), 81 P0.4/I2SRX_CLK/RD2/CAP2.0 (io), 82 P4.28/RX_MCLK/MAT2.0/TXD3 (io), 85 P4.29/RX_MCLK/MAT2.0/TXD3 (io), 86 P1.17/ENET_MDIO (io), 87 P1.16/ENET_MDC (io), 88 P1.15/ENET_REF_CLK (io), 89 P1.14/ENET_RX_ER (io), 90 P1.10/ENET_RXD1 (io), 91 P1.9/ENET_RXD0 (io), 92 P1.8/ENET_CRS (io), 93 P1.4/ENET_TX_EN (io), 94 P1.1/ENET_TXD1 (io), 95 P1.0/ENET_TXD0 (io), 98 P0.2/TXD0/AD0.7 (io), 99 P0.3/RXD0/AD0.6 (io)
part B pins: 1 TDO/SW0 (out), 2 TDI (power), 3 TMS/SWDIO (power), 4 ~{TRST} (power), 5 TCK/SWDCLK (power), 10 VDDA (power), 11 VSSA (power), 12 VREF+ (power), 13 NC (hiz) hidden, 14 ~{RSTOUT} (out), 15 VREF- (power), 16 RTCX1 (in), 17 ~{RESET} (in), 18 RTCX2 (out), 19 VBAT (power), 22 XTAL1 (in), 23 XTAL2 (out), 28 VDD(3V3) (power), 31 VSS (power), 41 VSS (power), 42 VDD(3V3) (power), 54 VDD(3V3) (power), 55 VSS (power), 71 VDD(3V3) (power), 72 VSS (power), 83 VSS (power), 84 VDD(3V3) (power), 96 VDD(3V3) (power), 97 VSS (power), 100 RTCK (io)

## OSCILLATOR
designator Y?, comment 50 MHz
OSCILLATOR; Frequency: 50 MHz
footprint ASV (OSC 5x7)
pins: 1 EN, 2 GND, 3 OUT (out), 4 Vdd

## PAM8302A
designator U?, comment PAM8302AASCR
PAM8302A - 2.5W Class-D Mono Audio Amplifier
footprint MSOP-8
pins: 1 /SD, 2 NC, 3 IN_P, 4 IN_N, 5 VO_P (out), 6 VDD (power), 7 GND (power), 8 VO_N (out)

## PBHV8560Z
designator T?
600 V, 0.5 A NPN high-voltage low VCEsat (BISS) transistor
footprint SOT-223
pins: 1 B, 2 C, 3 E, 4 C

## PBHV9560Z
designator T?
600 V, 0.5 A PNP high-voltage low VCEsat (BISS) transistor; Designer: Parsa Malekpour
footprint SOT-223
pins: 1 B, 2 C, 3 E, 4 C

## PCF8574A
designator U?, comment PCF8574ADW
Remote 8-Bit I/O Expander for I2C-Bus, 2.5 to 6.0 V, -40 to 85 degC, 16-pin SOIC (DW), Green (RoHS & no Sb/Br); Manufacturer: Texas Instruments; # of I/Os: 8; Voltage Nodes(V): 5, 3.3; VCC(Min)(V): 2.5; VCC(Max)(V): 6; Max Frequency(kHz): 100; fSCLK(Max)(MHz): 0.1; SubFamily: I2C IO Expander; I2C Address: 0111 xxx; Interrupt Output: Yes; ComponentLink1URL: http://www.ti.com/general/docs/lit/getliterature.tsp?genericPartNumber=PCF8574A&fileType=pdf; Reset Input: No; Eco-Plan: Green (RoHS & no Sb/Br); DatasheetVersion: SCPS069D; PackageReference: DW0016A; Vcc range(V): 2.5 to 6.0; PackageDescription: 16-Pin Small Outline Integrated Circuit, 10.3 x 7.5 mm, Pitch 1.27 mm Pitch; ComponentLink1Description: Datasheet; ComponentLink2Description: Package Specification; ComponentLink2URL: http://www.ti.com/litv/pdf/msoi003g; PackageVersion: revG, Jan-2011; Code_JEDEC: MS-013-AA; Push-Pull I/O Type: Yes; PartNumber: PCF8574ADW; Mounting Technology: Surface Mount
footprint SOIC-16W
pins: 1 A0 (in), 2 A1 (in), 3 A2 (in), 4 P0 (io), 5 P1 (io), 6 P2 (io), 7 P3 (io), 8 GND (power), 9 P4 (io), 10 P5 (io), 11 P6 (io), 12 P7 (io), 13 ~{INT} (oc), 14 SCL (in), 15 SDA (io), 16 VCC (power)

## PD438C
designator *
pins: 1 A, 2 K

## PHDR 2
designator J?
PinHeader
footprint PHDR2 (Pin Header 2 M)
pins: 1, 2

## PHDR 4
designator J?  (value not drawn)
PinHeader
footprint PHDR4
pins: 1, 2, 3, 4

## PHDR 6
designator J?, comment PHDR
PinHeader
footprint PHDR6
pins: 1, 2, 3, 4, 5, 6

## PHDR 8
designator J?, comment PHDR
PinHeader
footprint PHDR8
pins: 1, 2, 3, 4, 5, 6, 7, 8

## PHDR-16
designator P?, comment PinHeader 16  (value not drawn)
footprint phdr16
pins: 1, 2, 3, 4, 5, 6, 7, 8, 9, 10, 11, 12, 13, 14, 15, 16

## PIC ICSP
designator ICSP, comment PIC ICSP SOCKET  (value not drawn)
footprint PHDR6
pins: 1 VPP/~{MCLR}, 2 VDD, 3 VSS(Ground), 4 PGD/ICSPDAT, 5 PGC/ICSPCLK, 6 LVP

## Pin Header 2x3 SMD
designator P?, comment Pin Hdr 2x3
Pin Header 2x3, 2.54mm (100mil) SMD; Part Number: Pin Header 2x3 SMD; Manufacturer: W-CON; Manufacturer Part Number: 1125-1203S0M116R1; Part number IPS: 00000009966; Artikkelnr Noca: 55010007; Pad Count: 6; Footprint Doc: HDR_2x3-SMD; LatestRevisionDate: 2016-01-22; Published: 2016-01-22; Value: Pin Hdr 2x3; Note: SMD; ComponentLink1URL: N.A.; ComponentLink1Description: Datasheet; ComponentLink2URL: N.A.; ComponentLink2Description: Supplier link; HelpURL: \\hizz\pro\app9717\Datasheet\connectors\W-CON\1125-12XXXXMXXXXX.PDF; Supplier 1: Cabcon; Supplier Part Number 1: 1125-1203S0M116R1; Supplier 2: Samtec; Supplier Part Number 2: TSM-103-01-L-DV; Component Class: Connectors; PartId: 100500242
footprint HDR_2x3-SMD
pins: 1, 2, 3, 4, 5, 6

## Pin Header 2x5 SMD, 1.27mm, KS
designator P?, comment Pin Header 2x5, 1.27mm
Pin Header 2x5, 1.27mm (50mil), SMD, Keying Shroud; Part Number: Pin Header 2x5 SMD, 1.27mm, KS; Manufacturer: W-CON; Manufacturer Part Number: 3132-10MS0BK00R1; Part number IPS: 00000009968; Note: N.A.; Artikkelnr Noca: 55010009; Pad Count: 10; Footprint Doc: HDR_2x5-SMD-1.27mm; LatestRevisionDate: 2016-04-21; Published: 2016-01-22; Value: Pin Header 2x5, 1.27mm; ComponentLink1URL: N.A.; ComponentLink1Description: Datasheet; ComponentLink2URL: N.A.; ComponentLink2Description: Supplier link; HelpURL: \\hizz\pro\app9717\Datasheet\connectors\W-CON\3132-XXMXXBK00XX.pdf; Supplier 1: Cabcon; Supplier Part Number 1: 3132-10MS0BK00R1; Supplier 2: Samtec; Supplier Part Number 2: FTSH-105-01-F-DV-K; Component Class: Connectors; PartId: 100500261
footprint HDR_2x5-SMD-1.27mm-K
pins: 1, 2, 3, 4, 5, 6, 7, 8, 9, 10

## Pin List 1x6 SMD, N.C.
designator P?, comment Pin List 1x6  Assembly: Not mounted
Pin List 1x6, 2.54mm (100mil), SMD; Part Number: Pin List 1x6 SMD, N.C.; Manufacturer: W-CON; Manufacturer Part Number: 1125-1106S0M116R2; Note: N.A.; Artikkelnr Noca: 55010026; Pad Count: 6; LatestRevisionDate: 2016-03-29; Published: 2016-03-29; Value: Pin List 1x6; Footprint Doc: LIST_1x6_SMD; Part number IPS: N.A.; ComponentLink1URL: N.A.; ComponentLink1Description: Datasheet; ComponentLink2URL: N.A.; ComponentLink2Description: Supplier link; HelpURL: \\hizz\pro\app9717\Datasheet\connectors\W-CON\1125-11XXXXMXXXXX.pdf; Supplier 1: Cabcon; Supplier Part Number 1: 1125-1106S0M116R2; Supplier 2: Samtec; Supplier Part Number 2: TSM-106-01-L-SV-P-TR; Component Class: Connectors; PartId: 100500321
footprint LIST_1x6_SMD-NC
pins: 1, 2, 3, 4, 5, 6

## Pin List 1x8 SMD, N.C.
designator P?, comment Pin List 1x8  Assembly: Not mounted
Pin List 1x8, 2.54mm (100mil), SMD; Part Number: Pin List 1x8 SMD, N.C.; Manufacturer: W-CON; Manufacturer Part Number: 1125-1108S0M116R2; Note: N.A.; Artikkelnr Noca: 55010006; Pad Count: 8; LatestRevisionDate: 2016-01-22; Published: 2016-01-22; Value: Pin List 1x8; Footprint Doc: LIST_1x8_SMD; Part number IPS: N.A.; ComponentLink1URL: N.A.; ComponentLink1Description: Datasheet; ComponentLink2URL: N.A.; ComponentLink2Description: Supplier link; HelpURL: \\hizz\pro\app9717\Datasheet\connectors\W-CON\1125-11XXXXMXXXXX.pdf; Supplier 1: Cabcon; Supplier Part Number 1: 1125-1108S0M116R2; Supplier 2: Samtec; Supplier Part Number 2: TSM-108-01-L-SV-P-TR; Component Class: Connectors; PartId: 100500330
footprint LIST_1x8_SMD-NC
pins: 1, 2, 3, 4, 5, 6, 7, 8

## Pin List 1x10 SMD, N.C.
designator P?, comment Pin List 1x10  Assembly: Not mounted
Pin List 1x10, 2.54mm (100mil), SMD; Part Number: Pin List 1x10 SMD, N.C.; Manufacturer: W-CON; Manufacturer Part Number: 1125-1110S0M116R2; Note: N.A.; Artikkelnr Noca: 55010028; Pad Count: 10; LatestRevisionDate: 2016-03-29; Published: 2016-03-29; Value: Pin List 1x10; Footprint Doc: LIST_1x10_SMD; Part number IPS: N.A.; ComponentLink1URL: N.A.; ComponentLink1Description: Datasheet; ComponentLink2URL: N.A.; ComponentLink2Description: Supplier link; HelpURL: \\hizz\pro\app9717\Datasheet\connectors\W-CON\1125-11XXXXMXXXXX.pdf; Supplier 1: Cabcon; Supplier Part Number 1: 1125-1110S0M116R2; Supplier 2: Samtec; Supplier Part Number 2: TSM-110-01-L-SV-P-TR; Component Class: Connectors; PartId: 100500338
footprint LIST_1x10_SMD-NC
pins: 1, 2, 3, 4, 5, 6, 7, 8, 9, 10

## Pin List 1x13 SMD
designator P?, comment Pin List 1x13
Pin List 1x13, 2.54mm (100mil), SMD; Part Number: Pin List 1x13 SMD; Manufacturer: W-CON; Manufacturer Part Number: 1125-1113S0M116R2; Part number IPS: 00000002499; Note: N.A.; Pad Count: 13; Footprint Doc: LIST_1x13_SMD; LatestRevisionDate: 2015-11-10; Published: 2015-11-10; Value: Pin List 1x13; Artikkelnr Noca: N.A.; ComponentLink1URL: N.A.; ComponentLink1Description: Datasheet; ComponentLink2URL: N.A.; ComponentLink2Description: Supplier link; HelpURL: N.A.; Supplier 1: Cabcon; Supplier Part Number 1: 1125-1113S0M116R2; Supplier 2: Samtec; Supplier Part Number 2: TSM-113-01-L-SV-P-TR; Component Class: Connectors; PartId: 100500345
footprint LIST_1x13_SMD
pins: 1, 2, 3, 4, 5, 6, 7, 8, 9, 10, 11, 12, 13

## Pin List Ang 1x2 SMD, 2.54mm
designator P?, comment Pin List 1x2, Angled
Pin List 1x2, 2.54mm (100mil), Right Angled, SMD; Part Number: Pin List Ang 1x2 SMD, 2.54mm; Manufacturer: W-CON; Manufacturer Part Number: 1125B-1102S0Z135R2; Part number IPS: 00000009972; Note: N.A.; Artikkelnr Noca: 55010023; Pad Count: 2; Footprint Doc: LIST_ANG_1x2-SMD-2.54MM; LatestRevisionDate: 2016-05-26; Published: 2016-01-22; Value: Pin List 1x2, Angled; ComponentLink1URL: N.A.; ComponentLink1Description: Datasheet; ComponentLink2URL: N.A.; ComponentLink2Description: Supplier link; HelpURL: \\hizz\pro\app9717\Datasheet\connectors\W-CON\1125B-11XXXXZXXXXX.pdf; Supplier 1: Cabcon; Supplier Part Number 1: 1125B-1102S0Z135R2; Supplier 2: Samtec; Supplier Part Number 2: TSM-102-01-L-SH-A; Component Class: Connectors; PartId: 100500354
footprint LIST_ANG_1x2-SMD-2.54MM
pins: 1, 2

## PJ-311
designator J?, comment Phonejack Stereo SW
4-Conductor Jack with 2 break contacts (normals) and 2 auxiliary make contacts; Published: 5-Jan-2004; LatestRevisionDate: 17-Dec-2003; LatestRevisionNote: PCB Footprint replaced.; DatasheetDocument: 07-Mar-2000; Publisher: Altium Limited; ComponentLink1Description: Manufacturer Link; ComponentLink1URL: http://domino.kycon.com/internet/Products.html
footprint PJ-311D
pins: 1, 2 4, 3 2, 4, 5 3, 6 5

## PMCPB5530X,115
designator Q?, comment PMCPB5530
Mosfet Array N and P-Channel 20V 4A (Ta), 3.4A (Ta) 490mW Surface Mount 6-HUSON-EP (2x2); Part Number: PMCPB5530X,115; Manufacturer: Nexperia; Part number IPS: 00000001918; Note: N.A.; Pad Count: 8; Manufacturer Part Number: PMCPB5530X,115; LatestRevisionDate: 2018-04-30; Published: 2018-04-30; Value: PMCPB5530; Artikkelnr Noca: N.A.; Footprint Doc: 6-UDFN; ComponentLink1URL: https://assets.nexperia.com/documents/data-sheet/PMCPB5530X.pdf; ComponentLink1Description: Datasheet; ComponentLink2URL: https://www.digikey.com/product-detail/en/nexperia-usa-inc/PMCPB5530X115/1727-1327-1-ND/4386339; ComponentLink2Description: Supplier link; HelpURL: https://www.nexperia.com/products/mosfets/small-signal-mosfets/PMCPB5530X.html; Supplier 1: Digi-Key; Supplier Part Number 1: 1727-1327-1-ND; Supplier 2: Mouser; Supplier Part Number 2: 771-PMCPB5530X115; Component Class: Semiconductors; PartId: 101300165
footprint DFN65P200X200X80_HS-6N
part A pins: 1 S1, 2 G1, 6 D1
part B pins: 3 D2, 4 S2, 5 G2

## PNA4602M
designator IR?, comment PNA4602
38KHz IR Reciver Module
footprint PNA (IR RECIVER)
footprint PNA4602M (38KHz IR Reciver Module)
pins: 1 Vout (out), 2 VCC, 3 GND

## PRMA-1A
designator RLY?  (value not drawn)
REED RELAY
footprint dip-14
pins: 1 NO, 2 T2, 6 T1, 7 COM, 8 COM, 14 NO

## PRMA-1C
designator RLY?  (value not drawn)
REED RELAY
footprint dip-14
pins: 1 NO, 2 T2, 6 T1, 7 COM, 8 COM, 14 NO
text: +; _

## PRMA-2A
designator RLY?  (value not drawn)
REED RELAY
footprint prma
pins: 1 NO, 2 T2, 6 T1, 7 COM, 8 COM, 9 SH, 13 T1, 14 NO
text: +

## PRTR5V0U2X
designator D?
Ultra low capacitance double rail-to-rail ESD protection diode; reverse standoff voltage: 5.5V
footprint SOT-143B
pins: 1 GND (power), 2 IO 1 (io), 3 IO 2 (io), 4 VCC (power)

## PRTR5V0U4D
designator D?
Ultra low capacitance quadruple rail-to-rail ESD protection
footprint SOT-23-6
pins: 1 IO 1 (io), 2 GND (power), 3 IO 2 (io), 4 IO 3 (io), 5 VCC (power), 6 IO 4 (io)

## PS2801C-4
designator U?
4-Pin Phototransistor Optocoupler; Published: 24-Mar-1999; LatestRevisionDate: 04-Mar-2005; LatestRevisionNote: Sch pins 3 & 4 Swapped.; DatasheetVersion: Nov-2003; PackageReference: DIP-4; Publisher: Altium Limited
footprint soic-16n
part A pins: 1 A "Anode", 2 K "Cathode", 15 E "Emitter", 16 C "Collector"
part B pins: 3 A "Anode", 4 K "Cathode", 13 E "Emitter", 14 C "Collector"
part C pins: 5 A "Anode", 6 K "Cathode", 11 E "Emitter", 12 C "Collector"
part D pins: 7 A "Anode", 8 K "Cathode", 9 E "Emitter", 10 C "Collector"

## PTC
designator F?
PTC; Published: 24-Mar-1999; PackageVersion: Mar-2003; PackageReference: 6-0805
footprint PTC-0805
pins: 1, 2

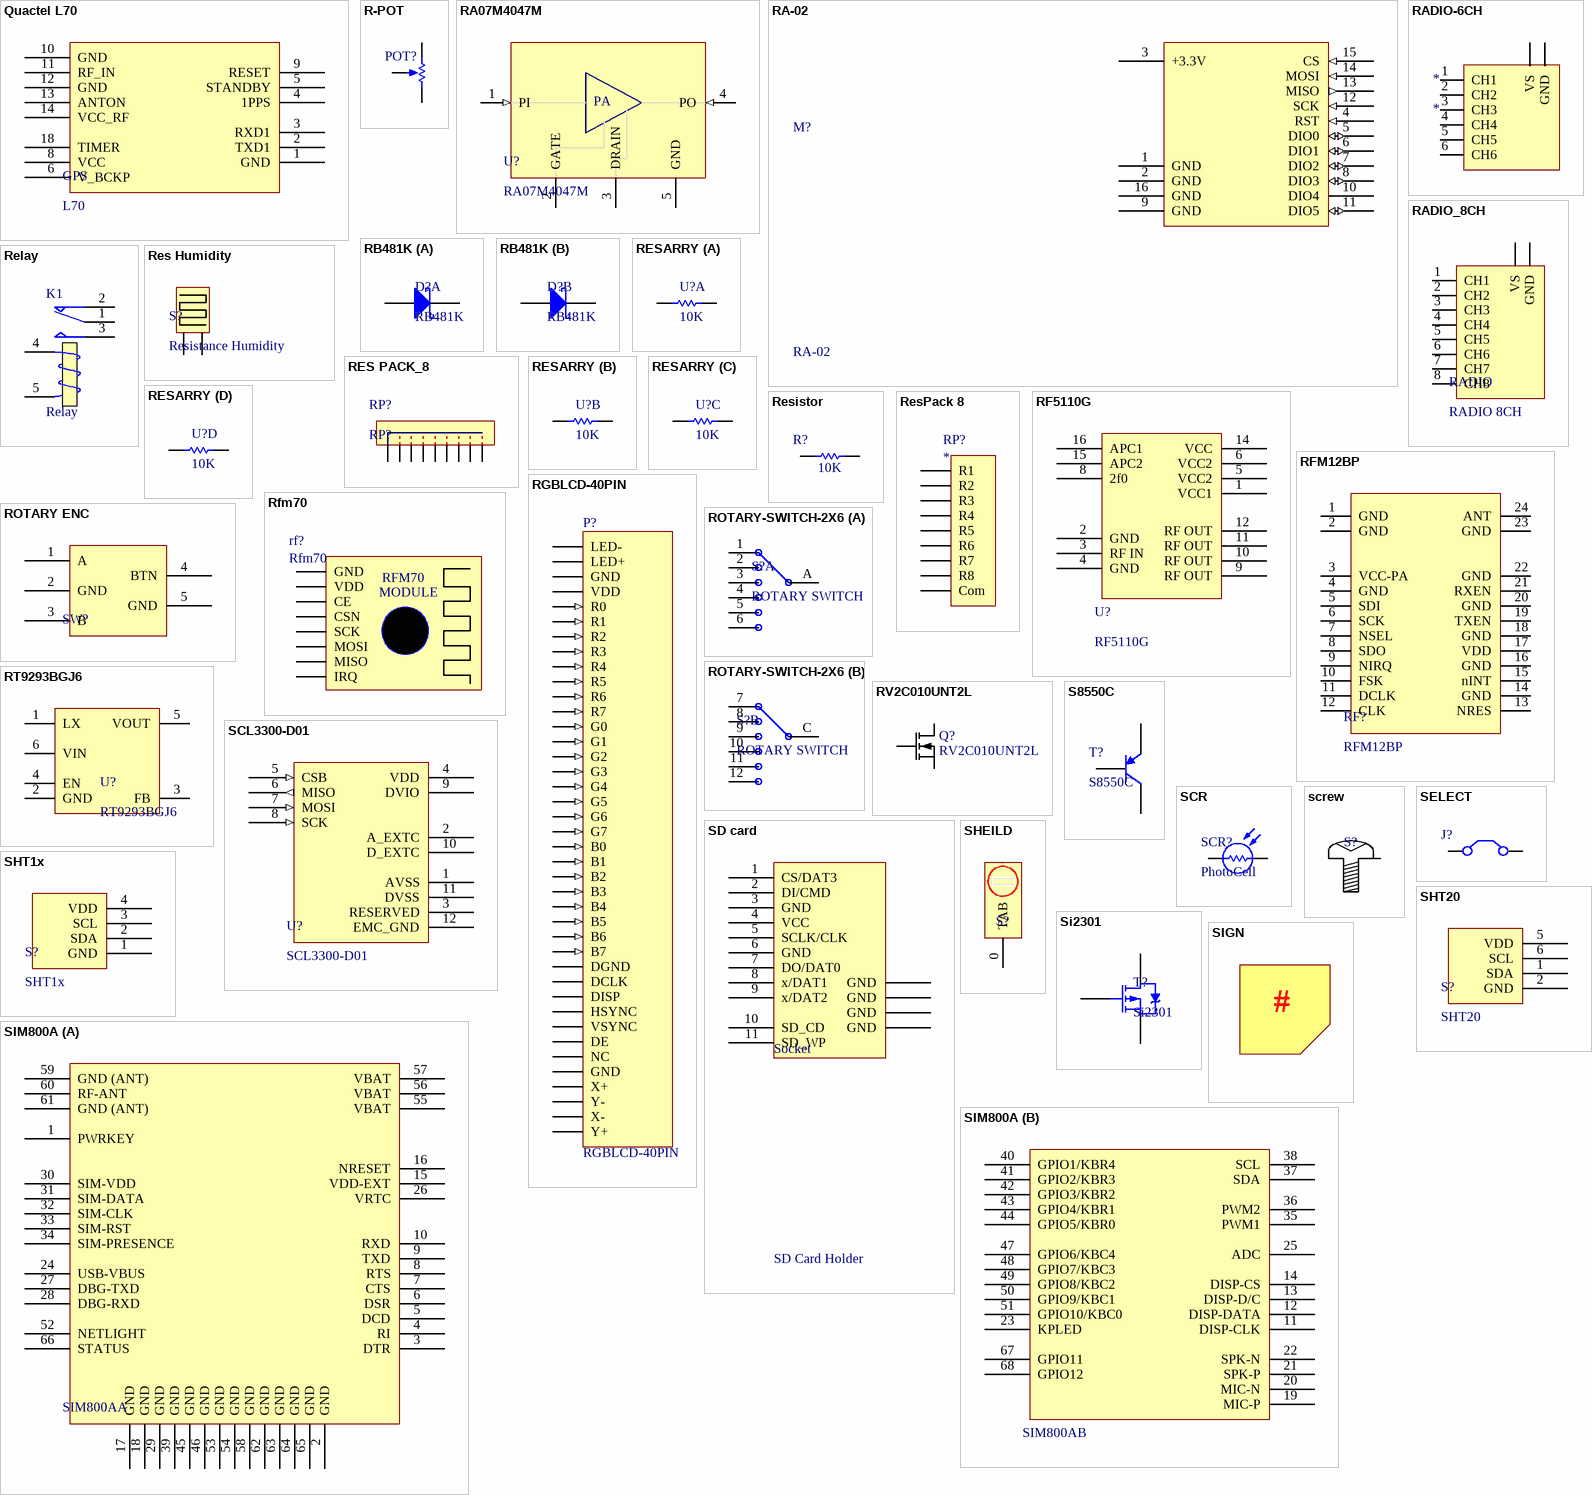
[diagram p10: symbols Quactel L70 to SIM800A]

## Quactel L70
designator GPS, comment L70
footprint QUECTEL L70
pins: 1 GND, 2 TXD1, 3 RXD1, 4 1PPS, 5 STANDBY, 6 V_BCKP, 7 NC hidden, 8 VCC, 9 RESET, 10 GND, 11 RF_IN, 12 GND, 13 ANTON, 14 VCC_RF, 15 NC hidden, 16 RESERVED hidden, 17 RESERVED hidden, 18 TIMER

## R-POT
designator POT?, comment POT  (value not drawn)
Varible Resistor; Resistance: 10K
footprint Multi Turn_H
footprint pot
footprint VOLUME
pins: 1 TOP, 2 BOT, 3 TAP

## RA07M4047M
designator U?
400-470MHz 7W 7.2V, 2 Stage Amp. For PORTABLE RADIO
footprint RA07M4047M
pins: 1 PI (in) "RF Input (Pin)", 2 GATE "Gate Voltage (VGG), Power Control", 3 DRAIN "Drain Voltage (VDD), Battery", 4 PO (in) "RF Output", 5 GND "Drain Voltage (VDD), Battery"
text: PA

## RA-02
designator M?
Lora Module
footprint RA-02
pins: 1 GND (power), 2 GND (power), 3 +3.3V (power), 4 RST (in), 5 DIO0 (io), 6 DIO1 (io), 7 DIO2 (io), 8 DIO3 (io) "Power ground", 9 GND (power), 10 DIO4, 11 DIO5 (io), 12 SCK (in), 13 MISO (out), 14 MOSI (in) "GPIO1 or UART TXD", 15 CS (in), 16 GND (power)

## RADIO-6CH
designator *
footprint PHDR-3X6
pins: 1 CH1, 2 CH2, 3 CH3, 4 CH4, 5 CH5, 6 CH6, + VS, - GND

## RADIO_8CH
designator RADIO, comment RADIO 8CH
DESIGNER: PARSA MALEKPOUR; EMAIL: MALEKPOUR.PARSA@gMAIL.COM
footprint RADIO 3X8
footprint RADIO 2+8
pins: 1 CH1, 2 CH2, 3 CH3, 4 CH4, 5 CH5, 6 CH6, 7 CH7, 8 CH8, + VS, - GND

## RB481K
designator D?
Schottky Barrier Diode
footprint SOT-243
part A pins: 1 K, 2 A
part B pins: 3 A, 4 K

## Relay
designator K1
SPDT Relay; Designer: Eng. Saeid Jorablo; Company: E.P.I.L; Design_Date: 2011/10/31
footprint CHILD-MILON
footprint Relay 18.85x15.35x15.70
pins: 1 COM, 2 NC, 3 NO, 4 T1, 5 T2

## Res Humidity
designator S?, comment Resistance Humidity
footprint Res Humidity
pins: 1, 2

## RES PACK_8
designator RP?, comment RP?
Resistor pack 8 wire; designer: parsa malekpour
footprint HDR1X8 (Footprint not found)
pins: 1 O, 2 R1, 3, 4, 5, 6, 7, 8, 8

## RESARRY
designator U?, comment 10K
Resistance: 10K
footprint RESARRAY-0603
part A pins: 1, 2
part B pins: 3, 4
part C pins: 5 1, 6
part D pins: 7 1, 8

## Resistor
designator R?, comment 10K
Resistor; Designer: Parsa Malekpour; Value: 10K
footprint R805
footprint R1206
footprint R0603
footprint R1210
footprint R2010
footprint RES-1/4W
footprint RES-1W
footprint RES-2W
footprint RES-5w
pins: 1, 2

## ResPack 8
designator RP?
Parsa
footprint ResPack 8 (Parsa4)
pins: 1 R1, 2 R2, 3 R3, 4 R4, 5 R5, 6 R6, 7 R7, 8 R8, 9 Com

## RF5110G
designator U?
3V GSM POWER AMPLIFIER
footprint QFN-16
pins: 1 VCC1, 2 GND, 3 RF IN, 4 GND, 5 VCC2, 6 VCC2, 8 2f0, 9 RF OUT, 10 RF OUT, 11 RF OUT, 12 RF OUT, 14 VCC, 15 APC2, 16 APC1, 17 GND hidden to GND

## RFM12BP
designator RF?
RF MODULE; DESIGNER: PARSA MALEKPOUR
footprint RFM12BP (RFM12BP FOOTPRINT)
pins: 1 GND, 2 GND, 3 VCC-PA "Positive power supply for power amplifier (12V)", 4 GND, 5 SDI "SPI data input", 6 SCK "SPI clock input", 7 NSEL "Chip select (active low)", 8 SDO "Serial data output with bus hold", 9 NIRQ "Interrupts request output(active low)", 10 FSK "Transmit FSK data input/ Received data output (FIFO not used)/ FIFO select", 11 DCLK "Clock output (no FIFO )/ external filter capacitor(analog mode)/ FIFO interrupts(active high)when FIFO level set to 1, FIFO empty interruption can be achieved", 12 CLK "Clock output for external microcontroller", 13 NRES "Reset output(active low)", 14 GND, 15 nINT "Interrupt input (active low)/Valid data indicator", 16 GND, 17 VDD "Positive power supply for FSK IC(2.2V-3.8V)", 18 GND, 19 TXEN "TX enable (active high ), Drive current ?3mA. TX disable(active low).", 20 GND, 21 RXEN "RX enable (active high), Drive current ?3mA. RX disable(active low).", 22 GND, 23 GND, 24 ANT "RF signal output/input (50 OHM)"

## Rfm70
designator rf?
spi rf module
footprint rfm70
pins: 1 GND, 2 VDD, 3 CE, 4 CSN, 5 SCK, 6 MOSI, 7 MISO, 8 IRQ
text: RFM70; MODULE

## RGBLCD-40PIN
designator P?
footprint FPC-40
pins: 1 LED-, 2 LED+, 3 GND, 4 VDD, 5 R0 (in), 6 R1 (in), 7 R2 (in), 8 R3 (in), 9 R4 (in), 10 R5 (in), 11 R6 (in), 12 R7 (in), 13 G0 (in), 14 G1 (in), 15 G2 (in), 16 G3 (in), 17 G4 (in), 18 G5 (in), 19 G6 (in), 20 G7 (in), 21 B0 (in), 22 B1 (in), 23 B2 (in), 24 B3 (in), 25 B4 (in), 26 B5 (in), 27 B6 (in), 28 B7 (in), 29 DGND, 30 DCLK, 31 DISP, 32 HSYNC, 33 VSYNC, 34 DE, 35 NC, 36 GND, 37 X+, 38 Y-, 39 X-, 40 Y+

## ROTARY ENC
designator SW?, comment Rotary Encoder  (value not drawn)
Rotary Encoder with push button
footprint ROTARY ENC (ROTARY ENCODER)
pins: 1 A, 2 GND, 3 B, 4 BTN, 5 GND, 6 MH hidden, 7 MH hidden

## ROTARY-SWITCH-2X6
designator S?, comment ROTARY SWITCH
footprint Rotary-Switch-3x4
part A pins: 1 J3, 2 V1, 3 V1, 4 V1, 5 J2, 6 J2, A J1
part B pins: 7 J3, 8 V1, 9 V1, 10 V1, 11 J2, 12 J2, C J1

## RT9293BGJ6
designator U?
Small Package, High Performance, Asynchronies Boost / for 10 WLED Driver
footprint SOT-23-6
pins: 1 LX, 2 GND, 3 FB, 4 EN, 5 VOUT, 6 VIN

## RV2C010UNT2L
designator Q?
N-Channel MOSFET, 20V, 1A, 470mOhm, 400mW; Manufacturer: Rohm Semiconductor; Part number IPS: 00000009976; Note: N.A.; Artikkelnr Noca: 35010020; Pad Count: 3; Part Number: RV2C010UNT2L; Manufacturer Part Number: RV2C010UNT2L; Footprint Doc: DFN-3; LatestRevisionDate: 2016-08-09; Published: 2016-08-09; Value: RV2C010UNT2L; ComponentLink1URL: N.A.; ComponentLink1Description: Datasheet; ComponentLink2URL: N.A.; ComponentLink2Description: Supplier link; HelpURL: http://rohmfs.rohm.com/en/products/databook/datasheet/discrete/transistor/mosfet/rv2c010unt2l-e.pdf; Supplier 1: Digi-Key; Supplier Part Number 1: RV2C010UNT2LCT-ND; Supplier 2: Mouser; Supplier Part Number 2: 755-RV2C010UNT2L; Component Class: Semiconductors; PartId: 101300132
footprint DFN65P100X40-3L
pins: 1 G, 2 S, 3 D

## S8550C
designator T?
footprint TO-92
pins: 1 E, 2 B, 3 C

## SCL3300-D01
designator U?
3-axis inclinometer with angle output  and digital SPI interface
footprint SCL3300-D01
pins: 1 AVSS (power), 2 A_EXTC, 3 RESERVED, 4 VDD, 5 CSB (in), 6 MISO (out), 7 MOSI (in), 8 SCK (in), 9 DVIO (power), 10 D_EXTC, 11 DVSS, 12 EMC_GND (power)

## SCR
designator SCR?, comment PhotoCell
pins: 1, 2

## screw
designator S?  (value not drawn)
footprint SCREW
pins: S

## SD card
designator Socket, comment SD Card Holder
footprint SD-CARD-SOCKET
pins: 1 CS/DAT3, 2 DI/CMD, 3 GND, 4 VCC, 5 SCLK/CLK, 6 GND, 7 DO/DAT0, 8 x/DAT1, 9 x/DAT2, 10 SD_CD, 11 SD_WP, 12 GND, 12 GND, 12 GND, 12 GND

## SELECT
designator J?  (value not drawn)
DESIGNER: Parsa Malekpour
footprint jumper-2
pins: 1 C1, 2 C2

## SHEILD
designator S?, comment SHIELD  (value not drawn)
RF SHIELD
footprint SHIELD-1625
pins: 0 TAB

## SHT1x
designator S?
Humidity and Temperature Sensor; Type: SHT10, SHT11, SHT15
footprint SHT1x
pins: 1 GND, 2 SDA, 3 SCL, 4 VDD "3.3V"

## SHT20
designator S?
Humidity and Temperature Sensor; Type: SHT10, SHT11, SHT15
footprint SHT20 (Footprint not found)
pins: 1 SDA, 2 GND, 5 VDD "3.3V", 6 SCL

## Si2301
designator T?
P-Channel 1.25-W, 2.5-V MOSFET
footprint SOT-23
pins: 1 G, 2 S, 3 D

## SIGN
designator ?
footprint POL-SIGN
text: #

## SIM800A
designator SIM800A  (value not drawn)
footprint SIM900
part A pins: 1 PWRKEY, 2 GND, 3 DTR, 4 RI, 5 DCD, 6 DSR, 7 CTS, 8 RTS, 9 TXD, 10 RXD, 15 VDD-EXT, 16 NRESET, 17 GND, 18 GND, 24 USB-VBUS, 26 VRTC, 27 DBG-TXD, 28 DBG-RXD, 29 GND, 30 SIM-VDD, 31 SIM-DATA, 32 SIM-CLK, 33 SIM-RST, 34 SIM-PRESENCE, 39 GND, 45 GND, 46 GND, 52 NETLIGHT, 53 GND, 54 GND, 55 VBAT, 56 VBAT, 57 VBAT, 58 GND, 59 GND (ANT), 60 RF-ANT, 61 GND (ANT), 62 GND, 63 GND, 64 GND, 65 GND, 66 STATUS
part B pins: 11 DISP-CLK, 12 DISP-DATA, 13 DISP-D/C, 14 DISP-CS, 19 MIC-P, 20 MIC-N, 21 SPK-P, 22 SPK-N, 23 KPLED, 25 ADC, 35 PWM1, 36 PWM2, 37 SDA, 38 SCL, 40 GPIO1/KBR4, 41 GPIO2/KBR3, 42 GPIO3/KBR2, 43 GPIO4/KBR1, 44 GPIO5/KBR0, 47 GPIO6/KBC4, 48 GPIO7/KBC3, 49 GPIO8/KBC2, 50 GPIO9/KBC1, 51 GPIO10/KBC0, 67 GPIO11, 68 GPIO12

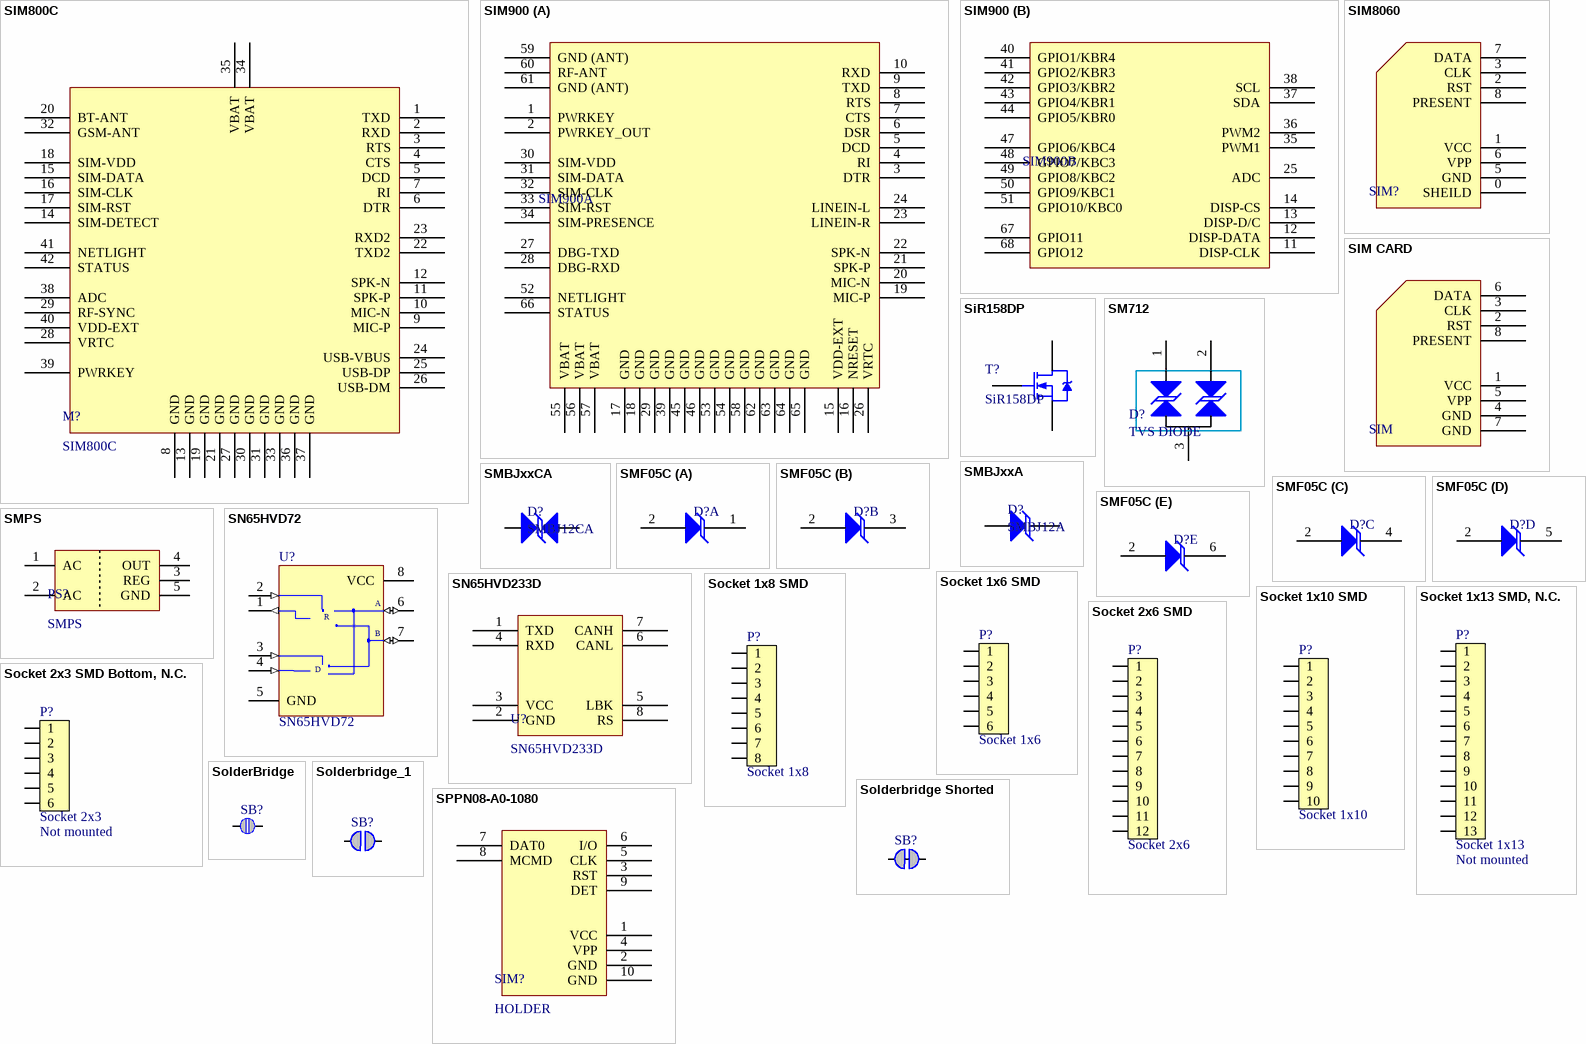
[diagram p11: symbols SIM800C to SPPN08-A0-1080]

## SIM800C
designator M?
footprint SIM800
pins: 1 TXD, 2 RXD, 3 RTS, 4 CTS, 5 DCD, 6 DTR, 7 RI, 8 GND, 9 MIC-P, 10 MIC-N, 11 SPK-P, 12 SPK-N, 13 GND, 14 SIM-DETECT, 15 SIM-DATA, 16 SIM-CLK, 17 SIM-RST, 18 SIM-VDD, 19 GND, 20 BT-ANT, 21 GND, 22 TXD2, 23 RXD2, 24 USB-VBUS, 25 USB-DP, 26 USB-DM, 27 GND, 28 VRTC, 29 RF-SYNC, 30 GND, 31 GND, 32 GSM-ANT, 33 GND, 34 VBAT, 35 VBAT, 36 GND, 37 GND, 38 ADC, 39 PWRKEY, 40 VDD-EXT, 41 NETLIGHT, 42 STATUS

## SIM900
designator SIM900  (value not drawn)
footprint SIM900
part A pins: 1 PWRKEY, 2 PWRKEY_OUT, 3 DTR, 4 RI, 5 DCD, 6 DSR, 7 CTS, 8 RTS, 9 TXD, 10 RXD, 15 VDD-EXT, 16 NRESET, 17 GND, 18 GND, 19 MIC-P, 20 MIC-N, 21 SPK-P, 22 SPK-N, 23 LINEIN-R, 24 LINEIN-L, 26 VRTC, 27 DBG-TXD, 28 DBG-RXD, 29 GND, 30 SIM-VDD, 31 SIM-DATA, 32 SIM-CLK, 33 SIM-RST, 34 SIM-PRESENCE, 39 GND, 45 GND, 46 GND, 52 NETLIGHT, 53 GND, 54 GND, 55 VBAT, 56 VBAT, 57 VBAT, 58 GND, 59 GND (ANT), 60 RF-ANT, 61 GND (ANT), 62 GND, 63 GND, 64 GND, 65 GND, 66 STATUS
part B pins: 11 DISP-CLK, 12 DISP-DATA, 13 DISP-D/C, 14 DISP-CS, 25 ADC, 35 PWM1, 36 PWM2, 37 SDA, 38 SCL, 40 GPIO1/KBR4, 41 GPIO2/KBR3, 42 GPIO3/KBR2, 43 GPIO4/KBR1, 44 GPIO5/KBR0, 47 GPIO6/KBC4, 48 GPIO7/KBC3, 49 GPIO8/KBC2, 50 GPIO9/KBC1, 51 GPIO10/KBC0, 67 GPIO11, 68 GPIO12

## SIM8060
designator SIM?, comment SIM NANO  (value not drawn)
footprint SIM8060-6
pins: 0 SHEILD, 1 VCC, 2 RST, 3 CLK, 5 GND, 6 VPP, 7 DATA, 8 PRESENT

## SIM CARD
designator SIM  (value not drawn)
footprint SIM-HOLDER-2
footprint SIM-HOLDER-6-2
pins: 1 VCC, 2 RST, 3 CLK, 4 GND, 5 VPP, 6 DATA, 7 GND, 8 PRESENT

## SiR158DP
designator T?
N-Channel 30 V (D-S) MOSFET
footprint PowerPAK SO-8 Single
pins: 1 S, 2 S, 3 S, 4 G, 5 D, 6 D, 7 D, 8 D

## SM712
designator D?, comment TVS DIODE
footprint SOT-23
pins: 1 K, 2 K, 3 A

## SMBJxxA
designator D?, comment SMBJ12A
Surface Mount Transient Voltage Suppressors Diode; Parameter 1: *
footprint DO-214AA
pins: 1 A, 2 K

## SMBJxxCA
designator D?, comment SMBJ12CA
Surface Mount Transient Voltage Suppressors Diode; Parameter 1: *
footprint DO-214AA
pins: 1 A, 2 K

## SMF05C
designator D?  (value not drawn)
TVS Diode Array  For ESD and Latch-Up Protection
footprint SOT-363
part A pins: 1 K, 2 A
part B pins: 2 A, 3 K
part C pins: 2 A, 4 K
part D pins: 2 A, 5 K
part E pins: 2 A, 6 K

## SMPS
designator PS?
footprint SMPS-20X30
pins: 1 AC, 2 AC, 3 REG, 4 OUT, 5 GND

## SN65HVD72
designator U?
3.3-V Supply RS-485 With IEC ESD protection; Published: 16-Jan-2001; LatestRevisionDate: 29-May-2009; LatestRevisionNote: Component Body Added.; DatasheetVersion: Feb-1996; PackageVersion: RevB, 21-0043; PackageReference: PA8; Publisher: Altium Limited; PackageDescription: DIP, 8-Pin, Row Spacing 7.62 mm, Pitch 2.54 mm; Code_JEDEC: MS-001-AB
footprint SOIC-8N
pins: 1 RO (out), 2 ~{RE} (in), 3 DE (in), 4 DI (in), 5 GND (power), 6 A (io), 7 B (io), 8 VCC (power)
text: R; D

## SN65HVD233D
designator U?
footprint SOIC-8N
pins: 1 TXD, 2 GND, 3 VCC, 4 RXD, 5 LBK, 6 CANL, 7 CANH, 8 RS

## Socket 1x6 SMD
designator P?, comment Socket 1x6
Socket 1x6, 2.54mm (100mil), SMD; Part Number: Socket 1x6 SMD; Manufacturer: W-CON; Manufacturer Part Number: 2171-106MS0CUNR1; Part number IPS: 00000009964; Note: N.A.; Artikkelnr Noca: 55030001; Pad Count: 6; Footprint Doc: SOCKET_1x6_SMD; LatestRevisionDate: 2017-10-23; Published: 2016-01-22; Value: Socket 1x6; ComponentLink1URL: N.A.; ComponentLink1Description: Datasheet; ComponentLink2URL: N.A.; ComponentLink2Description: Supplier link; HelpURL: N.A.; Supplier 1: Cabcon; Supplier Part Number 1: 2171-106MS0CUNR1; Supplier 2: Samtec; Supplier Part Number 2: SSM-106-F-SV-P-TR; Component Class: Connectors; PartId: 100500408
footprint SOCKET_1x6_SMD
pins: 1, 2, 3, 4, 5, 6

## Socket 1x8 SMD
designator P?, comment Socket 1x8
Socket 1x8, 2.54mm (100mil), SMD; Part Number: Socket 1x8 SMD; Manufacturer: W-CON; Manufacturer Part Number: 2171-108MS0CUNR1; Part number IPS: 00000009963; Note: N.A.; Artikkelnr Noca: 55030002; Pad Count: 8; Footprint Doc: SOCKET_1x8_SMD; LatestRevisionDate: 2017-10-23; Published: 2016-01-22; Value: Socket 1x8; ComponentLink1URL: N.A.; ComponentLink1Description: Datasheet; ComponentLink2URL: N.A.; ComponentLink2Description: Supplier link; HelpURL: N.A.; Supplier 1: Cabcon; Supplier Part Number 1: 2171-108MS0CUNR1; Supplier 2: Samtec; Supplier Part Number 2: SSM-108-F-SV-P-TR; Component Class: Connectors; PartId: 100500412
footprint SOCKET_1x8_SMD
pins: 1, 2, 3, 4, 5, 6, 7, 8